# Altium schematic symbol library Schlib1.SchLib: 218 symbols (part 1 of 3)
Pins are listed as number, name and electrical type; pins without a type are passive.

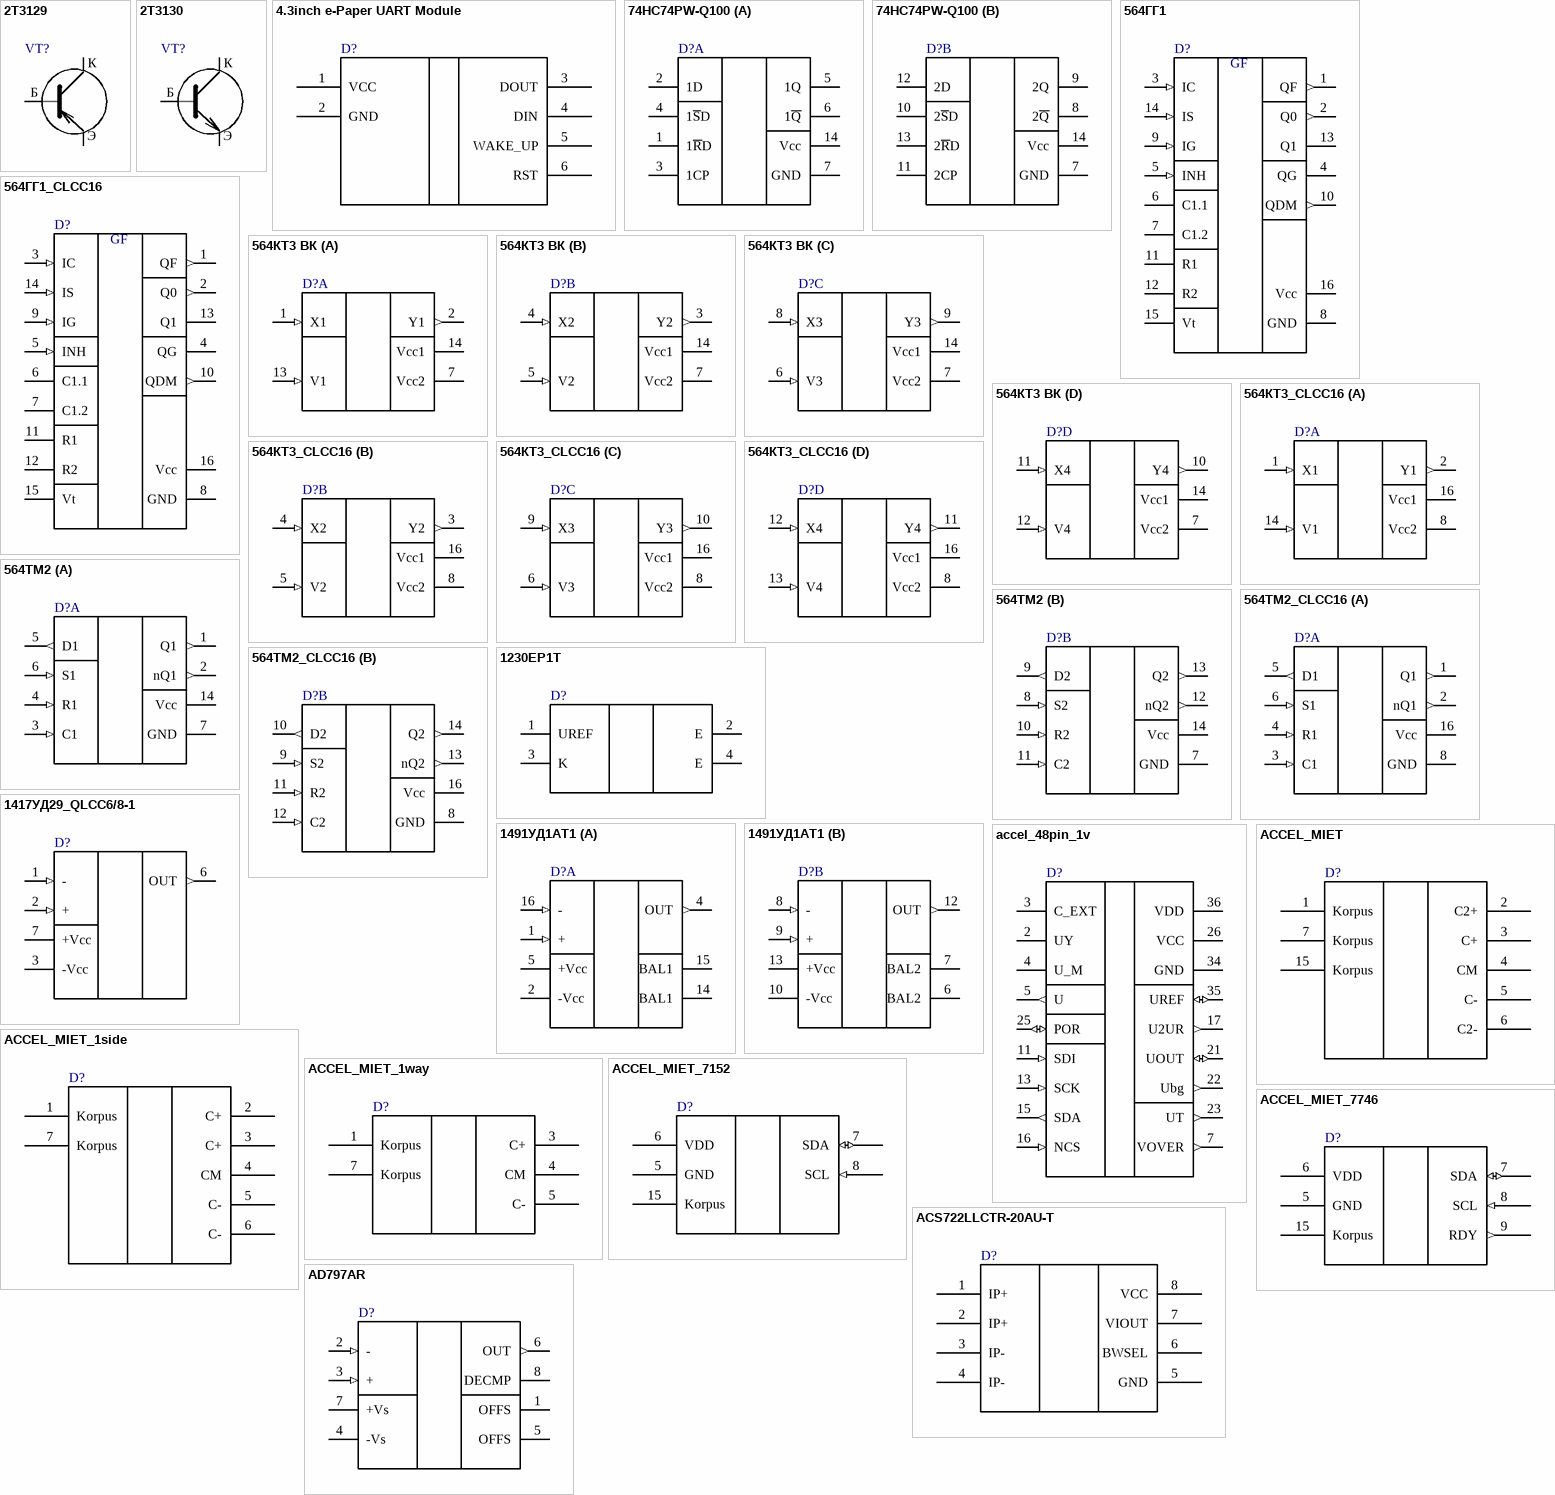
[diagram p0: symbols 2Т3129 to AD797AR]

## 2Т3129
designator VT?  (value not drawn)
Manufacturer: ???; Value: 2Т3129
footprint 2Т3129/2Т3130
pins: 1 Б, 2 Э, 3 К

## 2Т3130
designator VT?  (value not drawn)
Manufacturer: ???; Value: 2Т3130
footprint 2Т3129/2Т3130
pins: 1 Б, 2 Э, 3 К

## 4.3inch e-Paper UART Module
designator D?  (value not drawn)
Manufacturer: WaweShare; Value: 4.3inch e-Paper UART Module
footprint 4.3inch e-Paper UART Module
pins: 1 VCC (power), 2 GND (power), 3 DOUT, 4 DIN, 5 WAKE_UP, 6 RST

## 74HC74PW-Q100
designator D?  (value not drawn)
Manufacturer: Nexperia; Value: 74HC74PW-Q100
footprint NXPERIA_TSSOP-14 (TSOP, 14-Leads, Body 5.00x4.40mm, Pitch 0.65mm, IPC High Density)
part A pins: 1 1~{R}D, 2 1D, 3 1CP, 4 1~{S}D, 5 1Q, 6 1~{Q}, 7 GND (power), 14 Vcc (power)
part B pins: 7 GND (power), 8 2~{Q}, 9 2Q, 10 2~{S}D, 11 2CP, 12 2D, 13 2~{R}D, 14 Vcc (power)

## 564ГГ1
designator D?  (value not drawn)
Manufacturer: Экситон; ValueComment: АЕЯР.431200.610-33 ТУ; Value: 564ГГ1
footprint 402.16-33 (CFP, 16-Leads, Body 11.50x10.45mm (max), Pitch 1.25mm, IPC High Density)
pins: 1 QF (out) "phase impulse output", 2 Q0 (out) "phase comparator output", 3 IC (in) "comparator input", 4 QG "oscillator output", 5 INH (in) "disable oscilator", 6 C1.1, 7 C1.2, 8 GND (power), 9 IG (in) "oscillator input", 10 QDM (out) "demodulator output", 11 R1, 12 R2, 13 Q1 "phase comparator output", 14 IS (in) "signal input", 15 Vt "zener diode", 16 Vcc (power)
text: GF

## 564ГГ1_CLCC16
designator D?  (value not drawn)
Manufacturer: MIET; Value: 564ГГ1_CLCC16
footprint 5119.16-A (Milandr 5119.16-A)
pins: 1 QF (out) "phase impulse output", 2 Q0 (out) "phase comparator output", 3 IC (in) "comparator input", 4 QG "oscillator output", 5 INH (in) "disable oscilator", 6 C1.1, 7 C1.2, 8 GND (power), 9 IG (in) "oscillator input", 10 QDM (out) "demodulator output", 11 R1, 12 R2, 13 Q1 "phase comparator output", 14 IS (in) "signal input", 15 Vt "zener diode", 16 Vcc (power)
text: GF

## 564КТ3 ВК
designator D?  (value not drawn)
Manufacturer: MIET; ValueComment: АЕЯР.431200.150 ТУ; Value: 564КТ3 ВК
footprint 401.14-5 (CFP, 14-Leads, Body 11.50x7.30mm (max), Pitch 1.25mm, IPC High Density)
part A pins: 1 X1 (in), 2 Y1 (out), 7 Vcc2 (power) "0V power", 13 V1 (in), 14 Vcc1 (power) "10V power"
part B pins: 3 Y2 (out), 4 X2 (in), 5 V2 (in), 7 Vcc2 (power) "0V power", 14 Vcc1 (power) "10V power"
part C pins: 6 V3 (in), 7 Vcc2 (power) "0V power", 8 X3 (in), 9 Y3 (out), 14 Vcc1 (power) "10V power"
part D pins: 7 Vcc2 (power) "0V power", 10 Y4 (out), 11 X4 (in), 12 V4 (in), 14 Vcc1 (power) "10V power"

## 564КТ3_CLCC16
designator D?  (value not drawn)
Manufacturer: MIET; Value: 564КТ3_CLCC16
footprint 5119.16-A (Milandr 5119.16-A)
part A pins: 1 X1 (in), 2 Y1 (out), 7 NC hidden, 8 Vcc2 (power) "0V power", 14 V1 (in), 15 NC hidden, 16 Vcc1 (power) "10V power"
part B pins: 3 Y2 (out), 4 X2 (in), 5 V2 (in), 8 Vcc2 (power) "0V power", 16 Vcc1 (power) "10V power"
part C pins: 6 V3 (in), 8 Vcc2 (power) "0V power", 9 X3 (in), 10 Y3 (out), 16 Vcc1 (power) "10V power"
part D pins: 8 Vcc2 (power) "0V power", 11 Y4 (out), 12 X4 (in), 13 V4 (in), 16 Vcc1 (power) "10V power"

## 564ТМ2
designator D?  (value not drawn)
Manufacturer: MIET, Ангстрем; Value: 564ТМ2
footprint 401.14-5 (CFP, 14-Leads, Body 11.50x7.30mm (max), Pitch 1.25mm, IPC High Density)
part A pins: 1 Q1 (out), 2 nQ1 (out), 3 C1 (in), 4 R1 (in), 5 D1 (out), 6 S1 (in), 7 GND (power), 14 Vcc (power)
part B pins: 7 GND (power), 8 S2 (in), 9 D2 (out), 10 R2 (in), 11 C2 (in), 12 nQ2 (out), 13 Q2 (out), 14 Vcc (power)

## 564ТМ2_CLCC16
designator D?  (value not drawn)
Manufacturer: MIET, Ангстрем; Value: 564ТМ2_CLCC16
footprint 5119.16-A (Milandr 5119.16-A)
part A pins: 1 Q1 (out), 2 nQ1 (out), 3 C1 (in), 4 R1 (in), 5 D1 (out), 6 S1 (in), 7 NC hidden, 8 GND (power), 15 NC hidden, 16 Vcc (power)
part B pins: 8 GND (power), 9 S2 (in), 10 D2 (out), 11 R2 (in), 12 C2 (in), 13 nQ2 (out), 14 Q2 (out), 16 Vcc (power)

## 1230ЕР1Т
designator D?  (value not drawn)
Manufacturer: ???; Value: 1230ЕР1Т
footprint 1230ЕР1Т
pins: 1 UREF, 2 E, 3 K, 4 E

## 1417УД29_QLCC6/8-1
designator D?  (value not drawn)
Manufacturer: MIET; Value: 1417УД29_QLCC6/8-1
footprint QLCC 6/8-1 (LCC, 8-Pins, Body 5.08x5.08mmx1.80mm, Pitch 1.27mm, IPC High Density)
pins: 1 - (in), 2 + (in), 3 -Vcc (power), 4 NC hidden, 5 NC hidden, 6 OUT (out), 7 +Vcc (power), 8 hidden

## 1491УД1АТ1
designator D?  (value not drawn)
Low Noise bipolar Operational Amplifier; Manufacturer: КРЛЗ Восход; Value: 1491УД1АТ1
footprint 402.16-33 (CFP, 16-Leads, Body 11.50x10.45mm (max), Pitch 1.25mm, IPC High Density)
part A pins: 1 + (in), 2 -Vcc (power), 3 NC (hiz) hidden, 4 OUT (out), 5 +Vcc (power), 14 BAL1, 15 BAL1, 16 - (in)
part B pins: 6 BAL2, 7 BAL2, 8 - (in), 9 + (in), 10 -Vcc (power), 11 NC (hiz) hidden, 12 OUT (out), 13 +Vcc (power)

## accel_48pin_1v
designator D?, comment accel_test_48pin  (value not drawn)
Manufacturer: MIET; Value: accel_test_48pin
footprint H16.48-1B_test (QFP, 48-Leads, Body 14.20x14.20mm, Pitch 1.00mm, IPC High Density)
pins: 1 NC hidden "accel_out", 2 UY "test pin", 3 C_EXT "noise reduction cap", 4 U_M "test pin", 5 U (out) "accel_out", 6 NC hidden, 7 VOVER (out) "overload detector", 8 NC hidden "noise reduction cap", 9 NC hidden "noise reduction cap", 10 NC hidden "noise reduction cap", 11 SDI (in) "data inp", 12 NC hidden "data inp", 13 SCK (in) "clock inp", 14 NC hidden, 15 SDA (out) "data out", 16 NCS (in) "chip select inp", 17 U2UR (out) "4V out", 18 NC hidden "4V out", 19 NC hidden "4V out", 20 NC hidden "4V out", 21 UOUT (io) "4V out", 22 Ubg (out) "1.25V out", 23 UT (out) "temperature sensor out", 24 NC hidden "temperature sensor out", 25 POR (io) "Power-on-Reset inp/out", 26 VCC (power) "power 5V", 27 NC hidden "chip select inp", 28 NC hidden "chip select inp", 29 NC hidden "chip select inp", 30 NC hidden "chip select inp", 31 NC hidden "chip select inp", 32 NC hidden "chip select inp", 33 NC hidden "chip select inp", 34 GND (power) "ground", 35 UREF (io) "2V ref out", 36 VDD (power) "power 5V", 37 NC hidden "phase impulse output", 38 NC hidden "phase impulse output", 39 NC hidden "phase impulse output", 40 NC hidden "phase impulse output", 41 NC hidden "phase impulse output", 42 NC hidden "phase impulse output", 43 NC hidden "phase impulse output", 44 NC hidden "phase impulse output", 45 NC hidden "phase impulse output", 46 NC hidden "phase impulse output", 47 NC hidden "phase impulse output", 48 NC hidden "phase impulse output"

## ACCEL_MIET
designator D?, comment MIET_Sensor  (value not drawn)
ACCEL MIET; Value: MIET_Sensor; Manufacturer: MIET
footprint 151.15-8
pins: 1 Korpus, 2 C2+, 3 C+, 4 CM, 5 C-, 6 C2-, 7 Korpus, 8 hidden, 9 hidden, 10 hidden, 11 hidden, 12 hidden, 13 hidden, 14 hidden, 15 Korpus

## ACCEL_MIET_1side
designator D?, comment MIET_Sensor  (value not drawn)
ACCEL MIET_1side; Manufacturer: MIET; Value: MIET_Sensor
footprint 151.15-8 - 1side
pins: 1 Korpus, 2 C+, 3 C+, 4 CM, 5 C-, 6 C-, 7 Korpus

## ACCEL_MIET_1way
designator D?, comment MIET_Sensor  (value not drawn)
ACCEL MIET_1way; Manufacturer: MIET; Value: MIET_Sensor
footprint 151.15-8_1way
pins: 1 Korpus, 3 C+, 4 CM, 5 C-, 7 Korpus

## ACCEL_MIET_7152
designator D?, comment ACCEL_7152_MIET  (value not drawn)
ACCEL MIET; Value: ACCEL_7152_MIET; Manufacturer: MIET
footprint 151.15-8
pins: 1 hidden, 2 hidden, 3 hidden, 4 hidden, 5 GND (power), 6 VDD (power), 7 SDA (io), 8 SCL (in), 10 hidden, 11 hidden, 12 hidden, 13 hidden, 14 hidden, 15 Korpus

## ACCEL_MIET_7746
designator D?, comment ACCEL_7746_MIET  (value not drawn)
ACCEL MIET; Value: ACCEL_7746_MIET; Manufacturer: MIET
footprint 151.15-8
pins: 1 hidden, 2 hidden, 3 hidden, 4 hidden, 5 GND (power), 6 VDD (power), 7 SDA (io), 8 SCL (in), 9 RDY (out), 10 hidden, 11 hidden, 12 hidden, 13 hidden, 14 hidden, 15 Korpus

## ACS722LLCTR-20AU-T
designator D?  (value not drawn)
Manufacturer: Allegro Microsystems; Value: ACS722LLCTR-20AU-T
footprint ACS722 (SOIC, 8-Leads, Body 4.90x3.90mm, Pitch 1.27mm, IPC Medium Density)
pins: 1 IP+, 2 IP+, 3 IP-, 4 IP-, 5 GND (power), 6 BWSEL, 7 VIOUT, 8 VCC (power)

## AD797AR
designator D?  (value not drawn)
Manufacturer: AnalogDevices; Value: AD797AR
footprint ADI_SOIC-8_R-8 (SOIC, 8-Leads, Body 4.90x3.90mm, Pitch 1.27mm, IPC High Density)
pins: 1 OFFS, 2 - (in), 3 + (in), 4 -Vs (power), 5 OFFS, 6 OUT (out), 7 +Vs (power), 8 DECMP

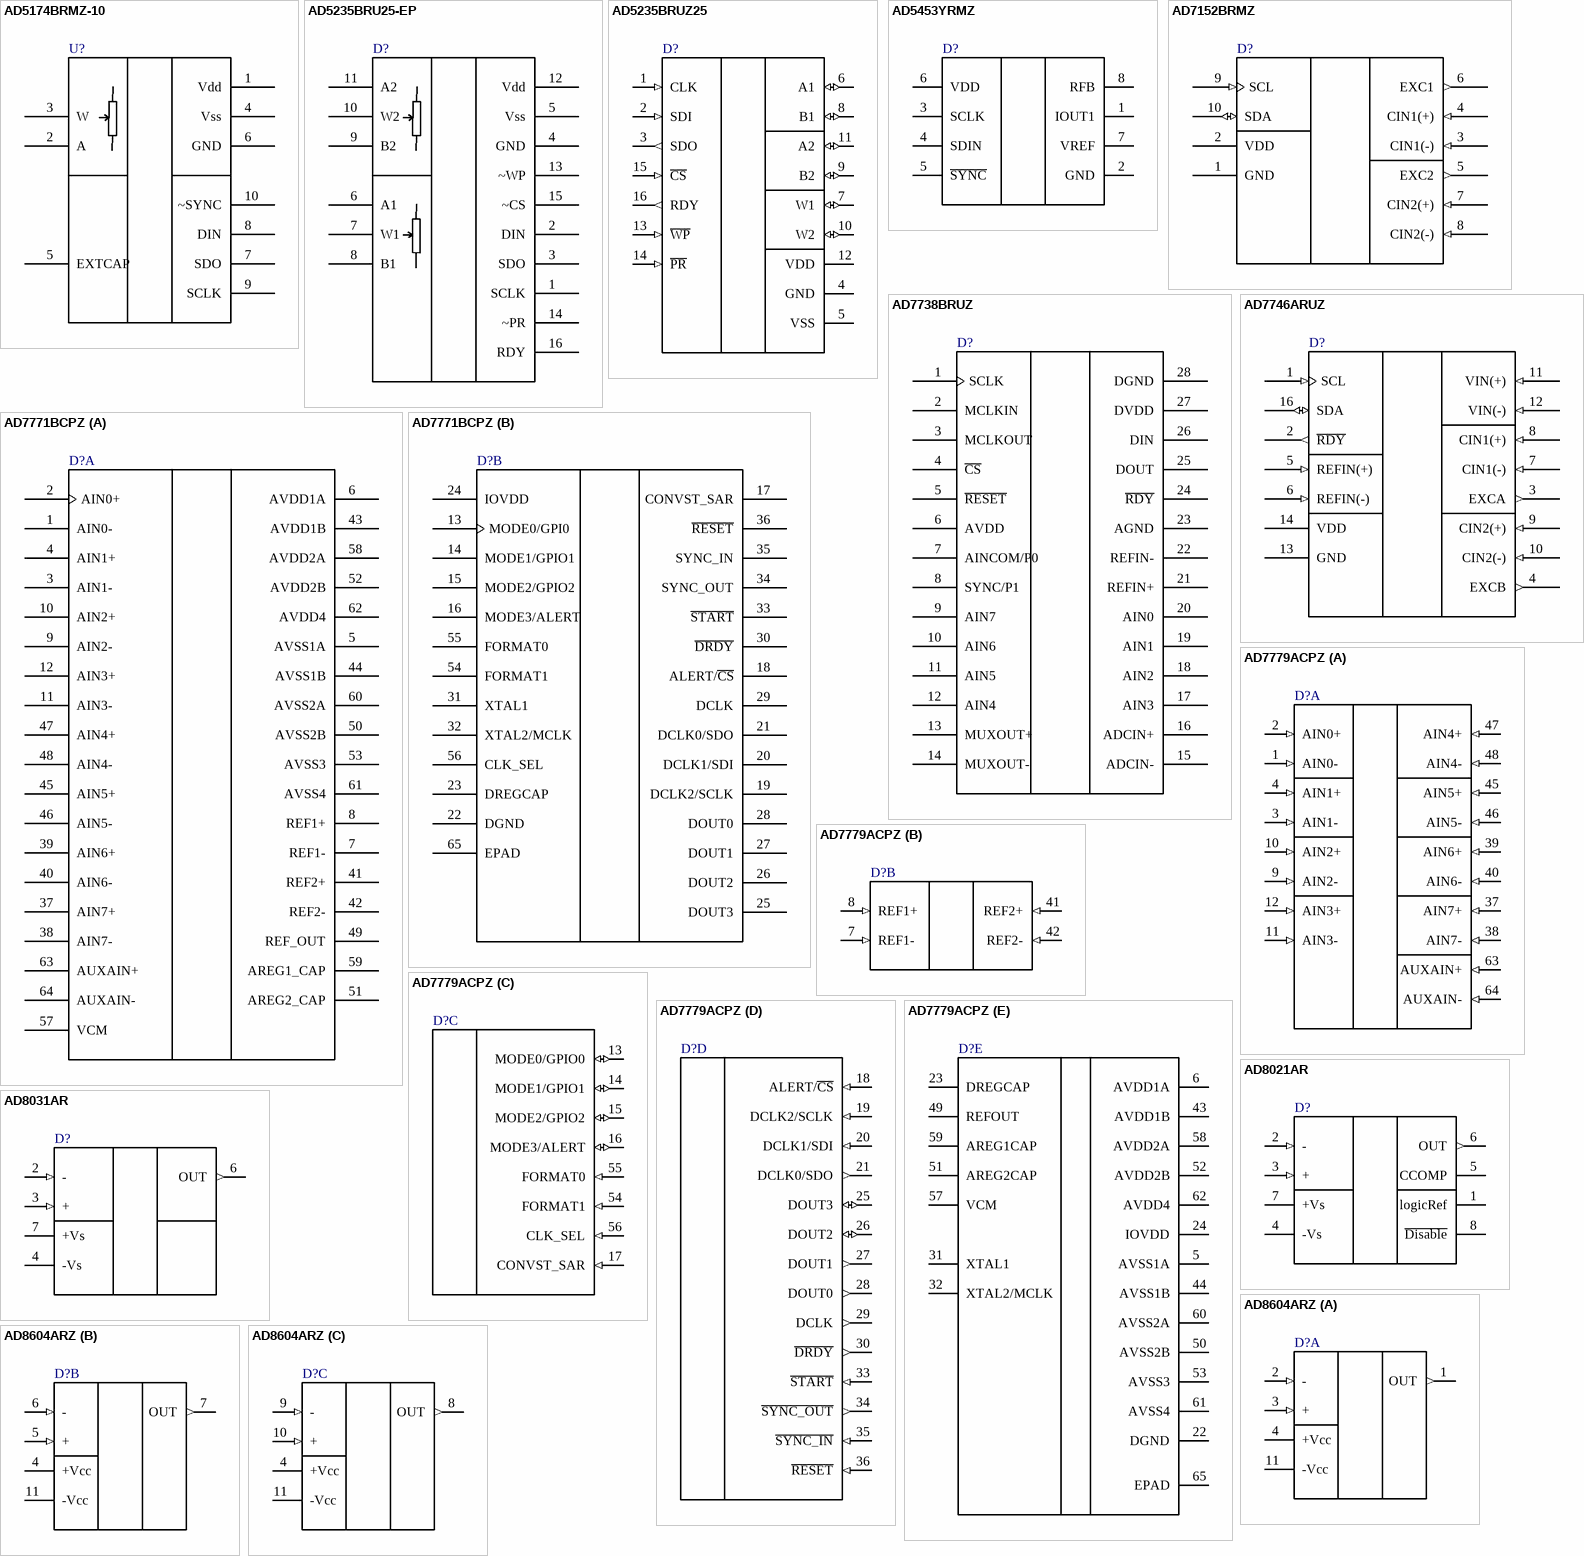
[diagram p1: symbols AD5174BRMZ-10 to AD8604ARZ]

## AD5174BRMZ-10
designator U?  (value not drawn)
Manufacturer: Analog Devices; Value: AD5174BRMZ-10
footprint ADI_RM-10_L (TSSOP, 10-Leads, Body 3x3mm, Pitch 0.5mm, IPC High Density)
pins: 1 Vdd (power), 2 A, 3 W, 4 Vss (power), 5 EXTCAP, 6 GND (power), 7 SDO, 8 DIN, 9 SCLK, 10 ~SYNC

## AD5235BRU25-EP
designator D?  (value not drawn)
10-Bit, Dual, Nonvolatile, Linear-Taper Digital Potentiometers; Manufacturer: Analog Devices; Value: AD5235BRU25-EP
footprint ADI-TSSOP-16 (TSOP, 16-Leads, Body 5.00x4.40mm, Pitch 0.65mm, IPC High Density)
pins: 1 SCLK, 2 DIN, 3 SDO, 4 GND (power), 5 Vss (power), 6 A1, 7 W1, 8 B1, 9 B2, 10 W2, 11 A2, 12 Vdd (power), 13 ~WP (power), 14 ~PR, 15 ~CS, 16 RDY

## AD5235BRUZ25
designator D?  (value not drawn)
Dual 1024-Position Digital Potentiometer; Manufacturer: Analog Devices; Value: AD5235BRUZ25
footprint AD5235BRUZ25 (TSOP, 16-Leads, Body 5.00x4.40mm, Pitch 0.65mm, IPC High Density)
pins: 1 CLK (in) "SPI clock", 2 SDI (in) "SPI MOSI", 3 SDO (out) "SPI MISO", 4 GND (power), 5 VSS (power), 6 A1 (io) "RDAC1_A", 7 W1 (io) "RDAC1_Wiper", 8 B1 (io) "RDAC1_B", 9 B2 (io) "RDAC2_B", 10 W2 (io) "RDAC2_Wiper", 11 A2 (io) "RDAC2_A", 12 VDD (power), 13 ~{WP} (in) "WriteProtect", 14 ~{PR} (in) "Preset", 15 ~{CS} (in) "SPI CS", 16 RDY (out) "READY"

## AD5453YRMZ
designator D?  (value not drawn)
Manufacturer: Analog Devices; Value: AD5453YRMZ
footprint ADI-RM-8 (SOP, 8-Leads, Body 3x3mm, Pitch 0.65mm, IPC High Density)
pins: 1 IOUT1, 2 GND (power), 3 SCLK, 4 SDIN, 5 ~{SYNC}, 6 VDD (power), 7 VREF, 8 RFB

## AD7152BRMZ
designator D?  (value not drawn)
Dual 12-Bit Capacitance-to-Digital Converter with I2C/Ser 2-Wire, Serial Interface, 200SPS, -40 to +85 degC, RM-10, Pb-Free, Tube; Generic Part Number: AD7152; Manufacturer: Analog Devices; Resolution (Bits): 12; Channels: 2; Throughput Rate (SPS): 200; DatasheetVersion: Rev.0; PackageVersion: May-2005; PackageReference: RM-10; PackageDescription: 10-Lead Mini Small Outline Package [MSOP]; Supplier 1: Digi-Key; Supplier Part Number 1: AD7152BRMZ-ND; Supplier 2: Mouser; Supplier Part Number 2: 584-AD7152BRMZ; Interface: I2C/Ser 2-Wire, Ser; RoHS: Y; Packing: Tube; Mounting Technology: Surface Mount; PartNumber: AD7152BRMZ; ComponentLink1Description: Manufacturer URL; ComponentLink1URL: http://www.analog.com/en/index.html; ComponentLink2Description: Datasheet; ComponentLink2URL: http://www.analog.com/static/imported-files/data_sheets/AD7152_7153.pdf; ComponentLink3Description: Package Specification; ComponentLink3URL: http://www.analog.com/static/imported-files/packages/PKG_PDF/MSOP%28RM%29/RM_10.pdf; ComponentLink4Description: Product URL; ComponentLink4URL: http://www.analog.com/en/analog-to-digital-converters/ad-converters/ad7152/products/product.html; Value: AD7152BRMZ
footprint ADI_RM-10_L (TSSOP, 10-Leads, Body 3x3mm, Pitch 0.5mm, IPC High Density)
pins: 1 GND (power) "Ground Pin.", 2 VDD (power) "Power Supply Voltage. This pin should be decoupled to GND, using a low impedance capacitor, for example, in combination with a 10 uF tantalum and a 0.1 uF multilayer ceramic capacitor.", 3 CIN1(-) (in) "CDC Negative Capacitive Input of Channel 1. If not used, this pin can be left as an open circuit or connected to GND. This pin is internally disconnected in single-ended CDC configuration.", 4 CIN1(+) (in) "CDC Positive Capacitive Input of Channel 1. If not used, this pin can be left as an open circuit or connected to GND.", 5 EXC2 (out) "CDC Excitation Output for Channel 2. The measured capacitance is connected between one of the EXC pins and one of the CIN pins. If not used, these pins should be left as an open circuit.", 6 EXC1 (out) "CDC Excitation Output for Channel 1. The measured capacitance is connected between one of the EXC pins and one of the CIN pins. If not used, these pins should be left as an open circuit.", 7 CIN2(+) (in) "CDC Positive Capacitive Input of Channel 2. If not used, this pin can be left as an open circuit or connected to GND.", 8 CIN2(-) (in) "CDC Negative Capacitive Input of Channel 2. If not used, this pin can be left as an open circuit or connected to GND. This pin is internally disconnected in single-ended CDC configuration.", 9 SCL (in) "Serial Interface Clock Input. Connects to the master clock line. Requires a pull-up resistor if one is not already provided in the system.", 10 SDA (io) "Serial Interface Bidirectional Data. Connects to the master data line. Requires a pull-up resistor if one is not provided elsewhere in the system."

## AD7738BRUZ
designator D?  (value not drawn)
Manufacturer: Analog Devices; Value: AD7738BRUZ
footprint AD7738BRUZ (TSOP, 28-Leads, Body 9.70x4.40mm, Pitch 0.65mm, IPC High Density)
pins: 1 SCLK, 2 MCLKIN, 3 MCLKOUT, 4 ~{CS}, 5 ~{RESET}, 6 AVDD (power), 7 AINCOM/P0, 8 SYNC/P1, 9 AIN7, 10 AIN6, 11 AIN5, 12 AIN4, 13 MUXOUT+, 14 MUXOUT-, 15 ADCIN-, 16 ADCIN+, 17 AIN3, 18 AIN2, 19 AIN1, 20 AIN0, 21 REFIN+, 22 REFIN-, 23 AGND (power), 24 ~{RDY}, 25 DOUT, 26 DIN, 27 DVDD, 28 DGND

## AD7746ARUZ
designator D?  (value not drawn)
Dual 24-Bit Capacitance-to-Digital Converter with I2C/Ser 2-Wire, Serial, Interface and Temperature Sensor, 90SPS, -40 to +125 degC, RU-16, Pb-Free, Tube; Generic Part Number: AD7746; Manufacturer: Analog Devices; Resolution (Bits): 24; Channels: 2; Throughput Rate (SPS): 90; DatasheetVersion: Rev.0; PackageVersion: Nov-2002; PackageReference: RU-16; PackageDescription: 16-Lead Thin Shrink Small Outline Package [TSSOP]; Supplier 1: Digi-Key; Supplier Part Number 1: AD7746ARUZ-ND; Supplier 2: Farnell; Supplier Part Number 2: 1078332; Supplier 3: Newark; Supplier Part Number 3: 19M0895; Supplier 4: Mouser; Supplier Part Number 4: 584-AD7746ARUZ; Interface: I2C/Ser 2-Wire, Ser; RoHS: Y; Packing: Tube; Mounting Technology: Surface Mount; Code_JEDEC: MO-153-AB; PartNumber: AD7746ARUZ; ComponentLink1Description: Manufacturer URL; ComponentLink1URL: http://www.analog.com/en/index.html; ComponentLink2Description: Datasheet; ComponentLink2URL: http://www.analog.com/static/imported-files/data_sheets/AD7745_7746.pdf; ComponentLink3Description: Package Specification; ComponentLink3URL: http://www.analog.com/static/imported-files/packages/36244347913743854010197452789RU16.pdf; ComponentLink4Description: Product URL; ComponentLink4URL: http://www.analog.com/en/analog-to-digital-converters/ad-converters/ad7746/products/product.html; Value: AD7746ARUZ
footprint ADI_RU-16_L_AD7746 (TSOP, 16-Leads, Body 5x4.4mm, Pitch 0.65mm, IPC High Density)
pins: 1 SCL (in) "Serial Interface Clock Input. Connects to the master clock line. Requires pull-up resistor if not already provided in the system.", 2 ~{RDY} (out) "Logic Output. A falling edge on this output indicates that a conversion on enabled channel(s) has been finished and the new data is available. Alternatively, the status register can be read via the 2-wire serial interface (See Datasheet)", 3 EXCA (out) "CDC Excitation Outputs. The measured capacitance is connected between one of the EXC pins and one of the CIN pins. If not used, these pins should be left as an open circuit.", 4 EXCB (out) "CDC Excitation Outputs. The measured capacitance is connected between one of the EXC pins and one of the CIN pins. If not used, these pins should be left as an open circuit.", 5 REFIN(+) (in) "Differential Voltage Reference Input for the Voltage Channel (ADC). Alternatively, the on-chip internal reference can be used for the voltage channel. These reference input pins are not used for conversion on capacitive (See Datasheet)", 6 REFIN(-) (in) "Differential Voltage Reference Input for the Voltage Channel (ADC). Alternatively, the on-chip internal reference can be used for the voltage channel. These reference input pins are not used for conversion on capacitive (See Datasheet)", 7 CIN1(-) (in) "CDC Negative Capacitive Input in Differential Mode. This pin is internally disconnected in single-ended CDC configuration. If not used, this pin can be left as an open circuit or connected to GND.", 8 CIN1(+) (in) "CDC Capacitive Input (in Single-Ended Mode) or Positive Capacitive Input (in Differential Mode). The measured capacitance is connected between one of the EXC pins and one of the CIN pins. If not used, this pin can be left as (See Datasheet)", 9 CIN2(+) (in) "CDC Second Capacitive Input (in Single-Ended Mode) or Positive Capacitive Input (in Differential Mode). If not used, this pin can be left open circuit or connected to GND.", 10 CIN2(-) (in) "CDC Negative Capacitive Input in Differential Mode. This pin is internally disconnected in a single-ended CDC configuration. If not used, this pin can be left as an open circuit or connected to GND.", 11 VIN(+) (in) "Differential Voltage Input for the Voltage Channel (ADC). These pins are also used to connect an external temperature sensing diode. If not used, these pins can be left as an open circuit or connected to GND.", 12 VIN(-) (in) "Differential Voltage Input for the Voltage Channel (ADC). These pins are also used to connect an external temperature sensing diode. If not used, these pins can be left as an open circuit or connected to GND.", 13 GND (power) "Ground Pin.", 14 VDD (power) "Power Supply Voltage. This pin should be decoupled to GND, using a low impedance capacitor, for example in combination with a 10 uF tantalum and a 0.1 uF multilayer ceramic.", 15 NC hidden "Not Connected. This pin should be left as an open circuit.", 16 SDA (io) "Serial Interface Bidirectional Data. Connects to the master data line. Requires a pull-up resistor if not provided elsewhere in the system."

## AD7771BCPZ
designator D?  (value not drawn)
Manufacturer: Analog Devices; Value: AD7771BCPZ
footprint ADI_LFCSP-64 (QFN, 64-Leads, Body 9.00x9.00mm, Pitch 0.50mm, Thermal Pad 7.60x7.60mm, IPC High Density)
part A pins: 1 AIN0-, 2 AIN0+, 3 AIN1-, 4 AIN1+, 5 AVSS1A (power), 6 AVDD1A (power), 7 REF1-, 8 REF1+, 9 AIN2-, 10 AIN2+, 11 AIN3-, 12 AIN3+, 37 AIN7+, 38 AIN7-, 39 AIN6+, 40 AIN6-, 41 REF2+, 42 REF2-, 43 AVDD1B (power), 44 AVSS1B (power), 45 AIN5+, 46 AIN5-, 47 AIN4+, 48 AIN4-, 49 REF_OUT, 50 AVSS2B (power), 51 AREG2_CAP, 52 AVDD2B, 53 AVSS3 (power), 57 VCM, 58 AVDD2A (power), 59 AREG1_CAP, 60 AVSS2A (power), 61 AVSS4 (power), 62 AVDD4 (power), 63 AUXAIN+, 64 AUXAIN-
part B pins: 13 MODE0/GPI0, 14 MODE1/GPIO1, 15 MODE2/GPIO2, 16 MODE3/ALERT, 17 CONVST_SAR, 18 ALERT/~{CS}, 19 DCLK2/SCLK, 20 DCLK1/SDI, 21 DCLK0/SDO, 22 DGND (power), 23 DREGCAP, 24 IOVDD (power), 25 DOUT3, 26 DOUT2, 27 DOUT1, 28 DOUT0, 29 DCLK, 30 ~{DRDY}, 31 XTAL1, 32 XTAL2/MCLK, 33 ~{START}, 34 SYNC_OUT, 35 SYNC_IN, 36 ~{RESET}, 54 FORMAT1, 55 FORMAT0, 56 CLK_SEL, 65 EPAD (power)

## AD7779ACPZ
designator D?  (value not drawn)
24-bit simultaneous sampling ADC; Manufacturer: ADI; Value: AD7779ACPZ
footprint AD7779ACPZ (QFN, 64-Leads, Body 9.00x9.00mm, Pitch 0.50mm, Thermal Pad 7.40x7.40mm, IPC High Density)
part A pins: 1 AIN0- (in), 2 AIN0+ (in), 3 AIN1- (in), 4 AIN1+ (in), 9 AIN2- (in), 10 AIN2+ (in), 11 AIN3- (in), 12 AIN3+ (in), 37 AIN7+ (in), 38 AIN7- (in), 39 AIN6+ (in), 40 AIN6- (in), 45 AIN5+ (in), 46 AIN5- (in), 47 AIN4+ (in), 48 AIN4- (in), 63 AUXAIN+ (in), 64 AUXAIN- (in)
part B pins: 7 REF1- (in), 8 REF1+ (in), 41 REF2+ (in), 42 REF2- (in)
part C pins: 13 MODE0/GPIO0 (io), 14 MODE1/GPIO1 (io), 15 MODE2/GPIO2 (io), 16 MODE3/ALERT (io), 17 CONVST_SAR (in), 54 FORMAT1 (in), 55 FORMAT0 (in), 56 CLK_SEL (in)
part D pins: 18 ALERT/~{CS} (in), 19 DCLK2/SCLK (in), 20 DCLK1/SDI (in), 21 DCLK0/SDO (out), 25 DOUT3 (io), 26 DOUT2 (io), 27 DOUT1 (out), 28 DOUT0 (out), 29 DCLK (out), 30 ~{DRDY} (out), 33 ~{START} (in), 34 ~{SYNC_OUT} (out), 35 ~{SYNC_IN} (in), 36 ~{RESET} (in)
part E pins: 5 AVSS1A (power), 6 AVDD1A (power), 22 DGND (power), 23 DREGCAP, 24 IOVDD (power), 31 XTAL1, 32 XTAL2/MCLK, 43 AVDD1B (power), 44 AVSS1B (power), 49 REFOUT, 50 AVSS2B (power), 51 AREG2CAP, 52 AVDD2B (power), 53 AVSS3 (power), 57 VCM, 58 AVDD2A (power), 59 AREG1CAP, 60 AVSS2A (power), 61 AVSS4 (power), 62 AVDD4 (power), 65 EPAD (power)

## AD8021AR
designator D?  (value not drawn)
OpAmp HighSpeed; Manufacturer: Analog Devices; Value: AD8021AR
footprint ADI_SOIC-8_R-8 (SOIC, 8-Leads, Body 4.90x3.90mm, Pitch 1.27mm, IPC High Density)
pins: 1 logicRef, 2 - (in), 3 + (in), 4 -Vs (power), 5 CCOMP, 6 OUT (out), 7 +Vs (power), 8 ~{Disable}

## AD8031AR
designator D?  (value not drawn)
OpAmp high speed; Manufacturer: Analog Devices; Value: AD8031AR
footprint ADI_SOIC-8_R-8 (SOIC, 8-Leads, Body 4.90x3.90mm, Pitch 1.27mm, IPC High Density)
pins: 1 NC (hiz) hidden, 2 - (in), 3 + (in), 4 -Vs (power), 5 NC (hiz) hidden, 6 OUT (out), 7 +Vs (power), 8 NC (hiz) hidden

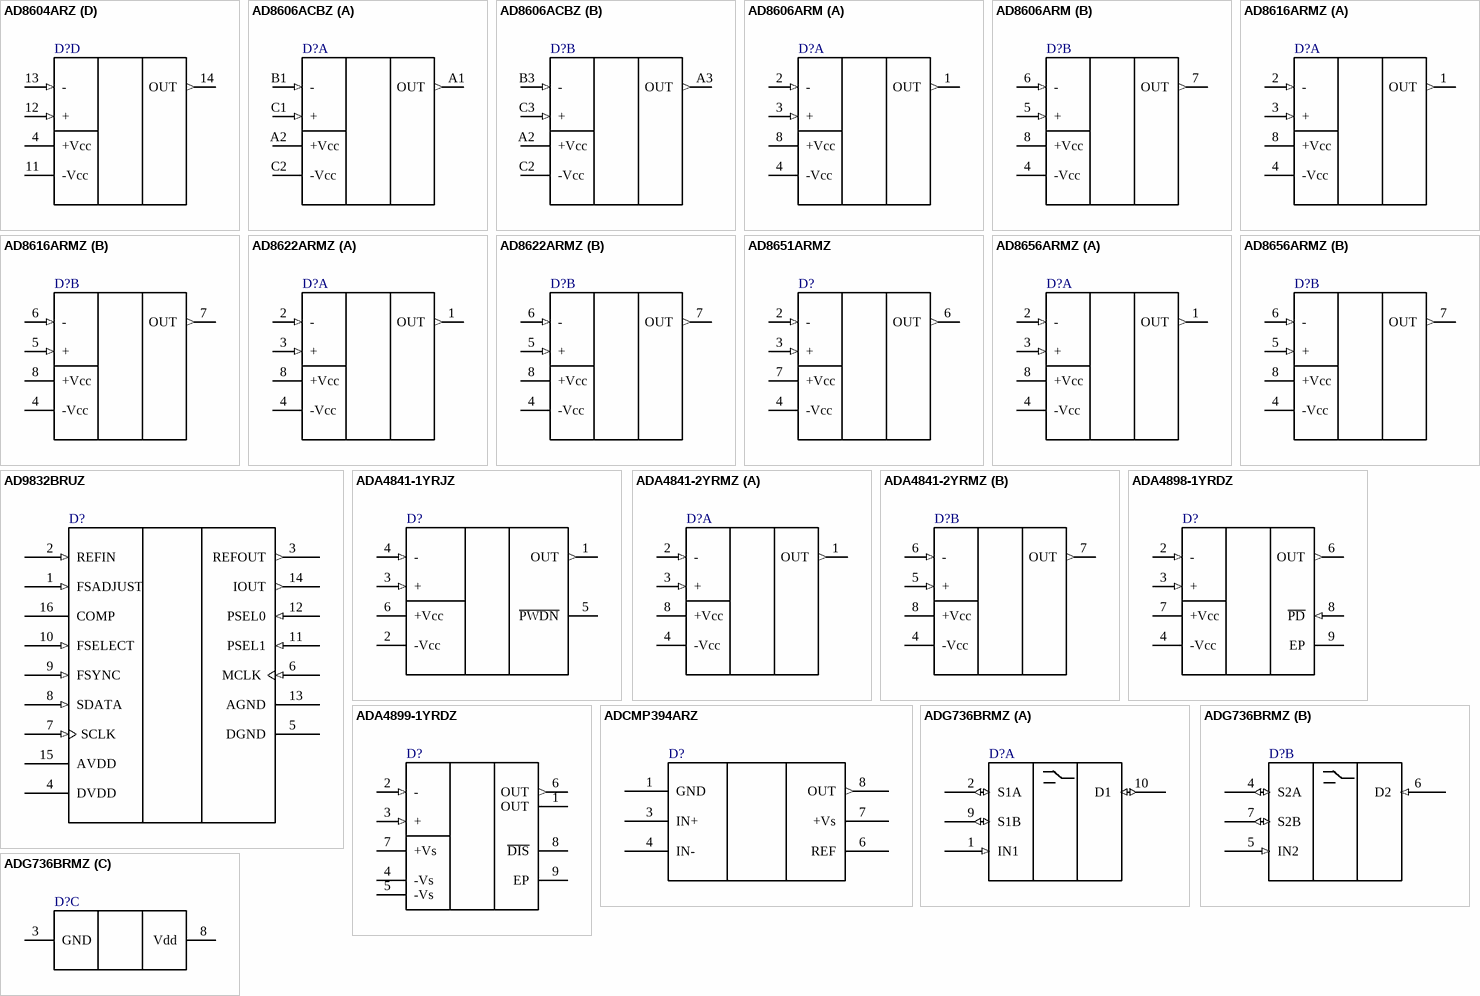
[diagram p2: symbols AD8604ARZ to ADG736BRMZ]

## AD8604ARZ
designator D?  (value not drawn)
Manufacturer: Analog Devices; Value: AD8604ARZ
footprint ADI_R-14 (SOIC, 14-Leads, Body 8.65x3.90mm, Pitch 1.27mm, IPC Medium Density)
part A pins: 1 OUT (out), 2 - (in), 3 + (in), 4 +Vcc (power), 11 -Vcc (power)
part B pins: 4 +Vcc (power), 5 + (in), 6 - (in), 7 OUT (out), 11 -Vcc (power)
part C pins: 4 +Vcc (power), 8 OUT (out), 9 - (in), 10 + (in), 11 -Vcc (power)
part D pins: 4 +Vcc (power), 11 -Vcc (power), 12 + (in), 13 - (in), 14 OUT (out)

## AD8606ACBZ
designator D?  (value not drawn)
Dual 10MHz unipolar OpAmp; Manufacturer: Analog Devices; Value: AD8606ACBZ
footprint AD8606ACBZ (BGA, 8-Leads, Body 1.43x1.78mmx0.68mm, Pitch 0.50mm)
part A pins: A1 OUT (out), A2 +Vcc (power), B1 - (in), C1 + (in), C2 -Vcc (power)
part B pins: A2 +Vcc (power), A3 OUT (out), B3 - (in), C2 -Vcc (power), C3 + (in)

## AD8606ARM
designator D?  (value not drawn)
Precision, Low Noise, CMOS, Rail-to-Rail, Input/Output Operational Amplifier; Manufacturer: Analog Devices; Value: AD8606ARM
footprint ADI-RM-8 (SOP, 8-Leads, Body 3x3mm, Pitch 0.65mm, IPC High Density)
part A pins: 1 OUT (out), 2 - (in), 3 + (in), 4 -Vcc (power), 8 +Vcc (power)
part B pins: 4 -Vcc (power), 5 + (in), 6 - (in), 7 OUT (out), 8 +Vcc (power)

## AD8616ARMZ
designator D?  (value not drawn)
Precision, 20 MHz, CMOS, Rail-to-Rail Input/Output Operational Amplifier; Manufacturer: Analog Devices; Value: AD8616ARMZ
footprint ADI-RM-8 (SOP, 8-Leads, Body 3x3mm, Pitch 0.65mm, IPC High Density)
part A pins: 1 OUT (out), 2 - (in), 3 + (in), 4 -Vcc (power), 8 +Vcc (power)
part B pins: 4 -Vcc (power), 5 + (in), 6 - (in), 7 OUT (out), 8 +Vcc (power)

## AD8622ARMZ
designator D?  (value not drawn)
Precision, Low Noise, CMOS, Rail-to-Rail, Input/Output Operational Amplifier; Manufacturer: Analog Devices; Value: AD8622ARMZ
footprint ADI-RM-8 (SOP, 8-Leads, Body 3x3mm, Pitch 0.65mm, IPC High Density)
part A pins: 1 OUT (out), 2 - (in), 3 + (in), 4 -Vcc (power), 8 +Vcc (power)
part B pins: 4 -Vcc (power), 5 + (in), 6 - (in), 7 OUT (out), 8 +Vcc (power)

## AD8651ARMZ
designator D?  (value not drawn)
Manufacturer: Analog Devices; Value: AD8651ARMZ
footprint ADI-RM-8 (SOP, 8-Leads, Body 3x3mm, Pitch 0.65mm, IPC High Density)
pins: 1 NC hidden, 2 - (in), 3 + (in), 4 -Vcc (power), 5 NC hidden, 6 OUT (out), 7 +Vcc (power), 8 NC hidden

## AD8656ARMZ
designator D?  (value not drawn)
Manufacturer: Analog Devices; Value: AD8656ARMZ
part A pins: 1 OUT (out), 2 - (in), 3 + (in), 4 -Vcc (power), 8 +Vcc (power)
part B pins: 4 -Vcc (power), 5 + (in), 6 - (in), 7 OUT (out), 8 +Vcc (power)

## AD9832BRUZ
designator D?  (value not drawn)
25 MHz Direct Digital Synthesizer, Waveform Generator, 10-Bit, Serial, RU-16, 96 Tube, Pb-Free; Manufacturer: Analog Devices; Master fclk: 25MHz; Resolution (Bits): 10bit; Tuning Word Width (bits): 32bit; REFCLK Multiplier: No; Compliance Range (V): 1.35V; FS Iout (mA nom): 4mA; I Supply total (max): 15mA; DatasheetVersion: Rev. C; PackageVersion: Nov-2002; PackageReference: RU-16; PackageDescription: 16-Lead Thin Shrink Small Outline Package [TSSOP]; I/O Interface: Serial; Code_JEDEC: MO-153AB; ComponentLink1Description: Manufacturer URL; ComponentLink1URL: www.analog.com; ComponentLink2Description: Datasheet; ComponentLink2URL: http://www.analog.com/static/imported-files/data_sheets/AD9832.pdf; ComponentLink3Description: Package Specification; ComponentLink3URL: http://www.analog.com/static/imported-files/packages/36244347913743854010197452789RU16.pdf; Value: AD9832BRUZ
footprint ADI-RU-16_L (TSOP, 16-Leads, Body 5x4.4mm, Pitch 0.65mm, IPC High Density)
pins: 1 FSADJUST (in) "Full-Scale Adjust Control. A resistor (RSET) is connected between this pin and AGND. This determines the  magnitude of the full-scale DAC current. [see datasheet]", 2 REFIN (in) "Voltage Reference Input. The AD9832 can be used with either the on-board reference, which is available from   the REFOUT pin, or an external reference. [see datasheet]", 3 REFOUT (out) "Voltage Reference Output. The AD9832 has an on-board reference of value 1.21 V nominal. The reference is  available on the REFOUT pin. [see datasheet]", 4 DVDD (power) "Positive Power Supply for the Digital Section. A 0.1 uF decoupling capacitor should be connected between   DVDD and DGND. DVDD can have a value of 5 V +/- 10% or 3.3 V +/- 0%", 5 DGND (power) "Digital Ground", 6 MCLK (in) "Digital Clock Input. DDS output frequencies are expressed as a binary fraction of the frequency of MCLK. This  clock determines the output frequency accuracy and phase noise", 7 SCLK (in) "Serial Clock, Logic Input. Data is clocked into the AD9832 on each falling SCLK edge.", 8 SDATA (in) "Serial Data In, Logic Input. The 16-bit serial data-word is applied to this input.", 9 FSYNC (in) "Data Synchronization Signal, Logic Input. When this input goes low, the internal logic is informed that  a new word is being loaded into the devic", 10 FSELECT (in) "Frequency Select Input. FSELECT controls which frequency register, FREQ0 or FREQ1, is used in the phase  accumulator. The frequency register to be used can be selected using the FSELECT pin or the FSELECT bit. [see datasheet]", 11 PSEL1 (in) "Phase Select Input. The AD9832 has four phase registers. These registers can be used to alter the value being  input to the SIN ROM. [see datasheet]", 12 PSEL0 (in) "Phase Select Input. The AD9832 has four phase registers. These registers can be used to alter the value being  input to the SIN ROM. [see datasheet]", 13 AGND (power) "Analog Ground", 14 IOUT (out) "Current Output. This is a high impedance current source. A load resistor should be connected between IOUT and AGN", 15 AVDD (power) "Positive Power Supply for the Analog Section. A 0.1 uF decoupling capacitor should be connected between  AVDD and AGND. AVDD can have a value of 5 V +/- 10% or 3.3 V +/- 10", 16 COMP "Compensation Pin. This is a compensation pin for the internal reference amplifier. A 10 nF decoupling ceramic capacitor should be connected between COMP and AVDD."

## ADA4841-1YRJZ
designator D?  (value not drawn)
Manufacturer: Analog Devices; Value: ADA4841-1YRJZ
footprint ADI_SOT23_6pin (SOT23, 6-Leads, Body 2.90x2.80mm, Pitch 0.95mm, IPC High Density)
pins: 1 OUT (out), 2 -Vcc (power), 3 + (in), 4 - (in), 5 ~{PWDN}, 6 +Vcc (power)

## ADA4841-2YRMZ
designator D?  (value not drawn)
Low Power, Low Noise and Distortion, Rail-to-Rail Output Amplifier; Manufacturer: Analog Devices; Value: ADA4841-2YRMZ
footprint ADI-RM-8 (SOP, 8-Leads, Body 3x3mm, Pitch 0.65mm, IPC High Density)
part A pins: 1 OUT (out), 2 - (in), 3 + (in), 4 -Vcc (power), 8 +Vcc (power)
part B pins: 4 -Vcc (power), 5 + (in), 6 - (in), 7 OUT (out), 8 +Vcc (power)

## ADA4898-1YRDZ
designator D?  (value not drawn)
High Voltage, Low Noise, Low Distortion, Unity-Gain Stable, High Speed Op Amp; Manufacturer: Analog Devices; Value: ADA4898-1YRDZ
footprint ADI_SOIC-8_RD-8-1 (SOIC, 8-Leads, Body 4.90x3.90mm, Pitch 1.27mm, IPC High Density)
pins: 1 NC (hiz) hidden, 2 - (in), 3 + (in), 4 -Vcc (power), 5 NC (hiz) hidden, 6 OUT (out), 7 +Vcc (power), 8 ~{PD} (in), 9 EP

## ADA4899-1YRDZ
designator D?  (value not drawn)
Manufacturer: Analog Devices; Value: ADA4899-1YRDZ
footprint ADI_SOIC-8_RD-8-1 (SOIC, 8-Leads, Body 4.90x3.90mm, Pitch 1.27mm, IPC High Density)
pins: 1 OUT, 2 - (in), 3 + (in), 4 -Vs (power), 5 -Vs (power), 6 OUT (out), 7 +Vs (power), 8 ~{DIS}, 9 EP

## ADCMP394ARZ
designator D?  (value not drawn)
Manufacturer: Analog Devices; Value: ADCMP394ARZ
footprint ADI_SOIC-8_R-8 (SOIC, 8-Leads, Body 4.90x3.90mm, Pitch 1.27mm, IPC High Density)
pins: 1 GND (power), 2 NC hidden, 3 IN+, 4 IN-, 5 NC hidden, 6 REF, 7 +Vs (power), 8 OUT (out)

## ADG736BRMZ
designator D?  (value not drawn)
Manufacturer: Analog Devices; Value: ADG736BRMZ
footprint MSOP10_ADI_RM-10 (TSSOP, 10-Leads, Body 3.00x3.00mm, Pitch 0.50mm, IPC High Density)
part A pins: 1 IN1 (in), 2 S1A (io), 9 S1B (io), 10 D1 (io)
part B pins: 4 S2A (io), 5 IN2 (in), 6 D2 (in), 7 S2B (io)
part C pins: 3 GND (power), 8 Vdd (power)

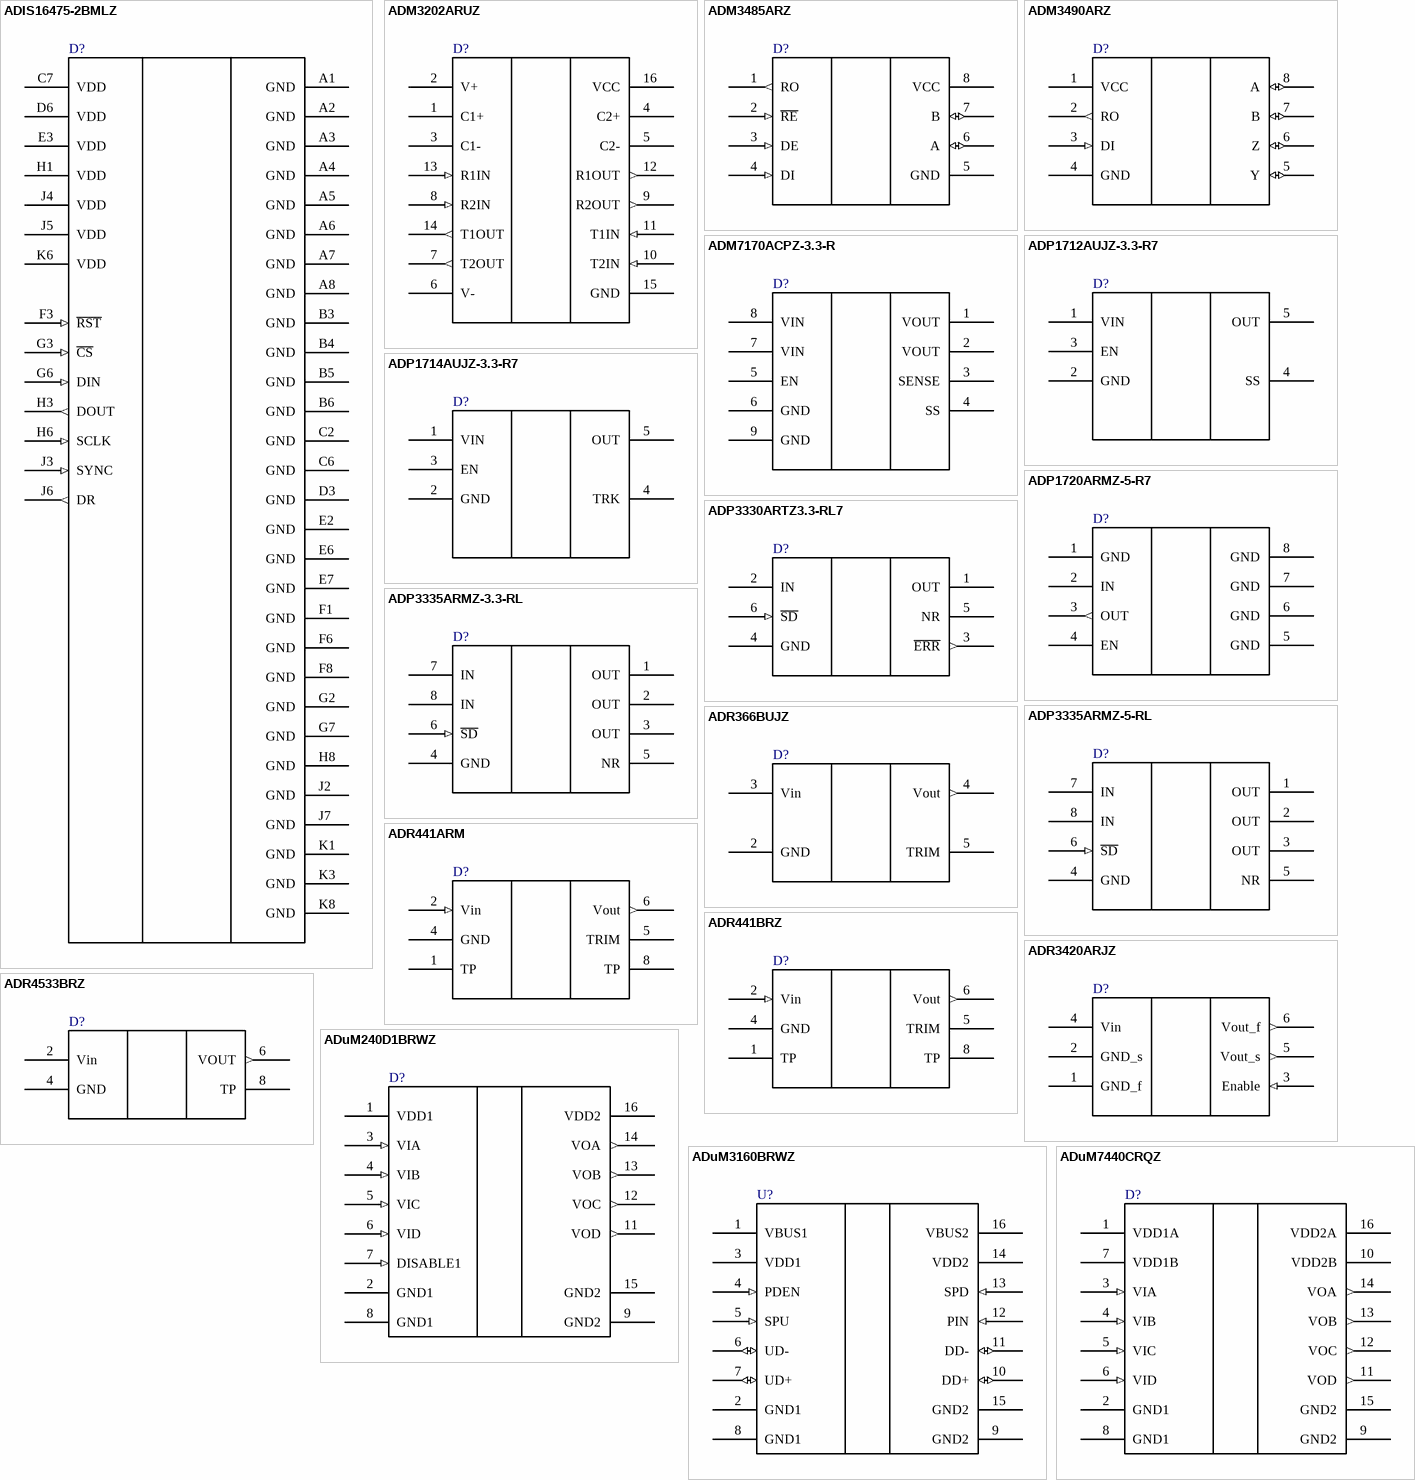
[diagram p3: symbols ADIS16475-2BMLZ to ADuM7440CRQZ]

## ADIS16475-2BMLZ
designator D?  (value not drawn)
Manufacturer: Analog Devices; Value: ADIS16475-2BMLZ
footprint ADI_ML-44-1 (BGA, 44-Leads, Body 11.00x15.00mmx11.35mm, Pitch 1.27mm)
pins: A1 GND (power), A2 GND (power), A3 GND (power), A4 GND (power), A5 GND (power), A6 GND (power), A7 GND (power), A8 GND (power), B3 GND (power), B4 GND (power), B5 GND (power), B6 GND (power), C2 GND (power), C3 DNC hidden, C6 GND (power), C7 VDD (power), D3 GND (power), D6 VDD (power), E2 GND (power), E3 VDD (power), E6 GND (power), E7 GND (power), F1 GND (power), F3 ~{RST} (in), F6 GND (power), F8 GND (power), G2 GND (power), G3 ~{CS} (in), G6 DIN (in), G7 GND (power), H1 VDD (power), H3 DOUT (out), H6 SCLK (in), H8 GND (power), J2 GND (power), J3 SYNC (in), J4 VDD (power), J5 VDD (power), J6 DR (out), J7 GND (power), K1 GND (power), K3 GND (power), K6 VDD (power), K8 GND (power)

## ADM3202ARUZ
designator D?  (value not drawn)
RS232 Driver/Receiver; Manufacturer: ADI; Value: ADM3202ARUZ
footprint ADI-RU-16_L (TSOP, 16-Leads, Body 5x4.4mm, Pitch 0.65mm, IPC High Density)
pins: 1 C1+, 2 V+ (power), 3 C1-, 4 C2+, 5 C2-, 6 V-, 7 T2OUT (out), 8 R2IN (in), 9 R2OUT (out), 10 T2IN (in), 11 T1IN (in), 12 R1OUT (out), 13 R1IN (in), 14 T1OUT (out), 15 GND (power), 16 VCC (power)

## ADM3485ARZ
designator D?  (value not drawn)
3.3 V Slew Rate Limited, Half- and Full-Duplex, RS-485/RS-422 Transceiver; Manufacturer: ADI; Value: ADM3485ARZ
footprint ADM3485ARZ (SOIC, 8-Leads, Body 4.90x3.90mm, Pitch 1.27mm, IPC High Density)
pins: 1 RO (out), 2 ~{RE} (in), 3 DE (in), 4 DI (in), 5 GND (power), 6 A (io), 7 B (io), 8 VCC (power)

## ADM3490ARZ
designator D?  (value not drawn)
3.3 V Slew Rate Limited, Half- and Full-Duplex, RS-485/RS-422 Transceiver; Manufacturer: ADI; Value: ADM3490ARZ
footprint ADM3485ARZ (SOIC, 8-Leads, Body 4.90x3.90mm, Pitch 1.27mm, IPC High Density)
pins: 1 VCC (power), 2 RO (out), 3 DI (in), 4 GND (power), 5 Y (io), 6 Z (io), 7 B (io), 8 A (io)

## ADM7170ACPZ-3.3-R
designator D?  (value not drawn)
Manufacturer: Analog Devices; Value: ADM7170ACPZ-3.3-R
footprint ADM7170ACPZ-3.3-R (QFN, 8-Leads, Body 3.00x3.00mm, Pitch 0.50mm, Thermal Pad 2.44x1.60mm, IPC High Density)
pins: 1 VOUT (power), 2 VOUT (power), 3 SENSE, 4 SS, 5 EN, 6 GND (power), 7 VIN (power), 8 VIN (power), 9 GND (power)

## ADP1712AUJZ-3.3-R7
designator D?  (value not drawn)
Manufacturer: Analog Devices; Value: ADP1712AUJZ-3.3-R7
footprint ADP1712AUJZ (SOT23, 5-Leads, Body 2.90x2.80mm, Pitch 0.95mm, IPC High Density)
pins: 1 VIN (power), 2 GND (power), 3 EN, 4 SS, 5 OUT (power)

## ADP1714AUJZ-3.3-R7
designator D?  (value not drawn)
Manufacturer: Analog Devices; Value: ADP1714AUJZ-3.3-R7
footprint ADP1712AUJZ (SOT23, 5-Leads, Body 2.90x2.80mm, Pitch 0.95mm, IPC High Density)
pins: 1 VIN (power), 2 GND (power), 3 EN, 4 TRK, 5 OUT (power)

## ADP1720ARMZ-5-R7
designator D?  (value not drawn)
Manufacturer: Analog Devices; Value: ADP1720ARMZ-5-R7
footprint ADI-RM-8 (SOP, 8-Leads, Body 3x3mm, Pitch 0.65mm, IPC High Density)
pins: 1 GND (power), 2 IN (power), 3 OUT (out), 4 EN, 5 GND (power), 6 GND (power), 7 GND (power), 8 GND (power)

## ADP3330ARTZ3.3-RL7
designator D?  (value not drawn)
Manufacturer: Analog Devices; Value: ADP3330ARTZ3.3-RL7
footprint ADP3330-ART (SOT23, 6-Leads, Body 2.90x2.80mm, Pitch 0.95mm, IPC High Density)
pins: 1 OUT (power) "Output of the Regulator. Bypass to ground with a 1.0 uF or larger capacitor. All pins must be connected together for proper operation.", 2 IN (power) "Regulator Input. All pins must be connected together for proper operation.", 3 ~{ERR} (out) "Active Low Shutdown Pin. Connect to ground to disable the regulator output. When shutdown is not used, this pin should be connected to the input pin.", 4 GND (power) "Ground Pin.", 5 NR "Noise Reduction Pin. Used for further reduction of output noise (see the Noise Reduction section for further details).", 6 ~{SD} (in) "Output of the Regulator. Bypass to ground with a 1.0 uF or larger capacitor. All pins must be connected together for proper operation."

## ADP3335ARMZ-3.3-RL
designator D?, comment ADP3335ARMZ-3.3  (value not drawn)
High Accuracy, Ultralow IQ, 500 mA, anyCAP Low Dropout Regulator, 2.6 to 12 V Vin, 3.3 V Vout, Industrial, 8-pin SOP (RM-8), Reel; Manufacturer: Analog Devices; PartNumber: ADP3335ARMZ-3.3-RL; Vin (max) (V): 12; Vin (min) (V): 2.6; DatasheetVersion: Rev. C; PackageVersion: Aug-05; PackageReference: RM-8; PackageDescription: 8-Pin Mini Small Outline Package, Body 3 x 3 mm, Pitch 0.65 mm; Supplier 1: Digi-Key; Supplier Part Number 1: ADP3335ARMZ-3.3-RLTR-ND; Supplier 2: Digi-Key; Supplier Part Number 2: ADP3335ARMZ-3.3-RLCT-ND; Supplier 3: Digi-Key; Supplier Part Number 3: ADP3335ARMZ-3.3-RLDKR-ND; Supplier 4: Newark; Supplier Part Number 4: 59K2607; Supplier 5: Mouser; Supplier Part Number 5: 584-ADP3335ARMZ3.3R; Packing: Reel; Mounting Technology: Surface Mount; Code_JEDEC: MO-187-AA; ComponentLink1Description: Manufacturer URL; ComponentLink1URL: http://www.analog.com/en/index.html; ComponentLink2Description: Datasheet; ComponentLink2URL: http://www.analog.com/static/imported-files/data_sheets/ADP3335.pdf; ComponentLink3Description: Package Specification; ComponentLink3URL: http://www.analog.com/static/imported-files/packages/PKG_PDF/MSOP%28RM%29/RM_8.pdf; ComponentLink4Description: URL Link1; ComponentLink4URL: Product URL:http://www.analog.com/en/ADP3335/productSearch.html; Value: ADP3335ARMZ-3.3
footprint ADI-RM-8 (SOP, 8-Leads, Body 3x3mm, Pitch 0.65mm, IPC High Density)
pins: 1 OUT (power) "Output of the Regulator. Bypass to ground with a 1.0 uF or larger capacitor. All pins must be connected together for proper operation.", 2 OUT (power) "Output of the Regulator. Bypass to ground with a 1.0 uF or larger capacitor. All pins must be connected together for proper operation.", 3 OUT (power) "Output of the Regulator. Bypass to ground with a 1.0 uF or larger capacitor. All pins must be connected together for proper operation.", 4 GND (power) "Ground Pin.", 5 NR "Noise Reduction Pin. Used for further reduction of output noise (see the Noise Reduction section for further details).", 6 ~{SD} (in) "Active Low Shutdown Pin. Connect to ground to disable the regulator output. When shutdown is not used, this pin should be connected to the input pin.", 7 IN (power) "Regulator Input. All pins must be connected together for proper operation.", 8 IN (power) "Regulator Input. All pins must be connected together for proper operation."

## ADP3335ARMZ-5-RL
designator D?, comment ADP3335ARMZ-5  (value not drawn)
High Accuracy, Ultralow IQ, 500 mA, anyCAP Low Dropout Regulator, 2.6 to 12 V Vin, 5 V Vout, Industrial, 8-pin SOP (RM-8), Reel; Manufacturer: Analog Devices; Value: ADP3335ARMZ-5
footprint ADI-RM-8 (SOP, 8-Leads, Body 3x3mm, Pitch 0.65mm, IPC High Density)
pins: 1 OUT (power) "Output of the Regulator. Bypass to ground with a 1.0 uF or larger capacitor. All pins must be connected together for proper operation.", 2 OUT (power) "Output of the Regulator. Bypass to ground with a 1.0 uF or larger capacitor. All pins must be connected together for proper operation.", 3 OUT (power) "Output of the Regulator. Bypass to ground with a 1.0 uF or larger capacitor. All pins must be connected together for proper operation.", 4 GND (power) "Ground Pin.", 5 NR "Noise Reduction Pin. Used for further reduction of output noise (see the Noise Reduction section for further details).", 6 ~{SD} (in) "Active Low Shutdown Pin. Connect to ground to disable the regulator output. When shutdown is not used, this pin should be connected to the input pin.", 7 IN (power) "Regulator Input. All pins must be connected together for proper operation.", 8 IN (power) "Regulator Input. All pins must be connected together for proper operation."

## ADR366BUJZ
designator D?  (value not drawn)
Low Power, Low Noise Voltage References  with Sink/Source Capability; Value: ADR366BUJZ
footprint ADR366BUJZ- (SOT23, 5-Leads, Body 2.90x2.80mm, Pitch 0.95mm, IPC High Density)
pins: 1 NC (hiz) hidden, 2 GND (power), 3 Vin (power), 4 Vout (out), 5 TRIM

## ADR441ARM
designator D?  (value not drawn)
Ultralow Noise, LDO XFET 2.5V Voltage Reference with Current Sink and Source; Manufacturer: Analog Devices; Value: ADR441ARM
footprint ADI-RM-8 (SOP, 8-Leads, Body 3x3mm, Pitch 0.65mm, IPC High Density)
pins: 1 TP, 2 Vin (in), 3 NC (hiz) hidden, 4 GND (power), 5 TRIM, 6 Vout (out), 7 NC (hiz) hidden, 8 TP

## ADR441BRZ
designator D?  (value not drawn)
Ultralow Noise, LDO XFET 2.5V Voltage Reference with Current Sink and Source; Manufacturer: Analog Devices; Value: ADR441BRZ
footprint ADI_SOIC-8_R-8 (SOIC, 8-Leads, Body 4.90x3.90mm, Pitch 1.27mm, IPC High Density)
pins: 1 TP, 2 Vin (in), 3 NC (hiz) hidden, 4 GND (power), 5 TRIM, 6 Vout (out), 7 NC (hiz) hidden, 8 TP

## ADR3420ARJZ
designator D?  (value not drawn)
Reference 2.048V; Manufacturer: Analog Devices; Value: ADR3420ARJZ
footprint ADR3420ARJZ (SOT23, 6-Leads, Body 2.90x2.80mm, Pitch 0.95mm, IPC High Density)
pins: 1 GND_f (power), 2 GND_s (power), 3 Enable (in), 4 Vin (power) "Regulator Input. All pins must be connected together for proper operation.", 5 Vout_s (out), 6 Vout_f (out)

## ADR4533BRZ
designator D?  (value not drawn)
Reference 3.3V; Manufacturer: ADI; Value: ADR4533BRZ
footprint ADR4533BRZ (SOIC, 8-Leads, Body 4.90x3.90mm, Pitch 1.27mm, IPC High Density)
pins: 1 NC hidden, 2 Vin (power), 3 NC hidden, 4 GND (power), 5 NC hidden, 6 VOUT (out), 7 NC hidden, 8 TP

## ADuM240D1BRWZ
designator D?  (value not drawn)
Value: ADuM240D1BRWZ
footprint ADI-RW-16 (SOIC, 16-Leads, Body 10.30x7.50mm, Pitch 1.27mm, IPC High Density)
pins: 1 VDD1 (power), 2 GND1 (power), 3 VIA (in), 4 VIB (in), 5 VIC (in), 6 VID (in), 7 DISABLE1 (in), 8 GND1 (power), 9 GND2 (power), 10 NIC hidden, 11 VOD (out), 12 VOC (out), 13 VOB (out), 14 VOA (out), 15 GND2 (power), 16 VDD2 (power)

## ADuM3160BRWZ
designator U?  (value not drawn)
Value: ADuM3160BRWZ
footprint ADI-RW-16 (SOIC, 16-Leads, Body 10.30x7.50mm, Pitch 1.27mm, IPC High Density)
pins: 1 VBUS1 (power), 2 GND1 (power), 3 VDD1 (power), 4 PDEN (in), 5 SPU (in), 6 UD- (io), 7 UD+ (io), 8 GND1 (power), 9 GND2 (power), 10 DD+ (io), 11 DD- (io), 12 PIN (in), 13 SPD (in), 14 VDD2 (power), 15 GND2 (power), 16 VBUS2 (power)

## ADuM7440CRQZ
designator D?  (value not drawn)
Value: ADuM7440CRQZ
footprint ADI-RQ16-QSOP16 (SOP, 16-Leads, Body 4.90x3.91mm, Pitch 0.64mm, IPC High Density)
pins: 1 VDD1A (power), 2 GND1 (power), 3 VIA (in), 4 VIB (in), 5 VIC (in), 6 VID (in), 7 VDD1B (power), 8 GND1 (power), 9 GND2 (power), 10 VDD2B (power), 11 VOD (out), 12 VOC (out), 13 VOB (out), 14 VOA (out), 15 GND2 (power), 16 VDD2A (power)

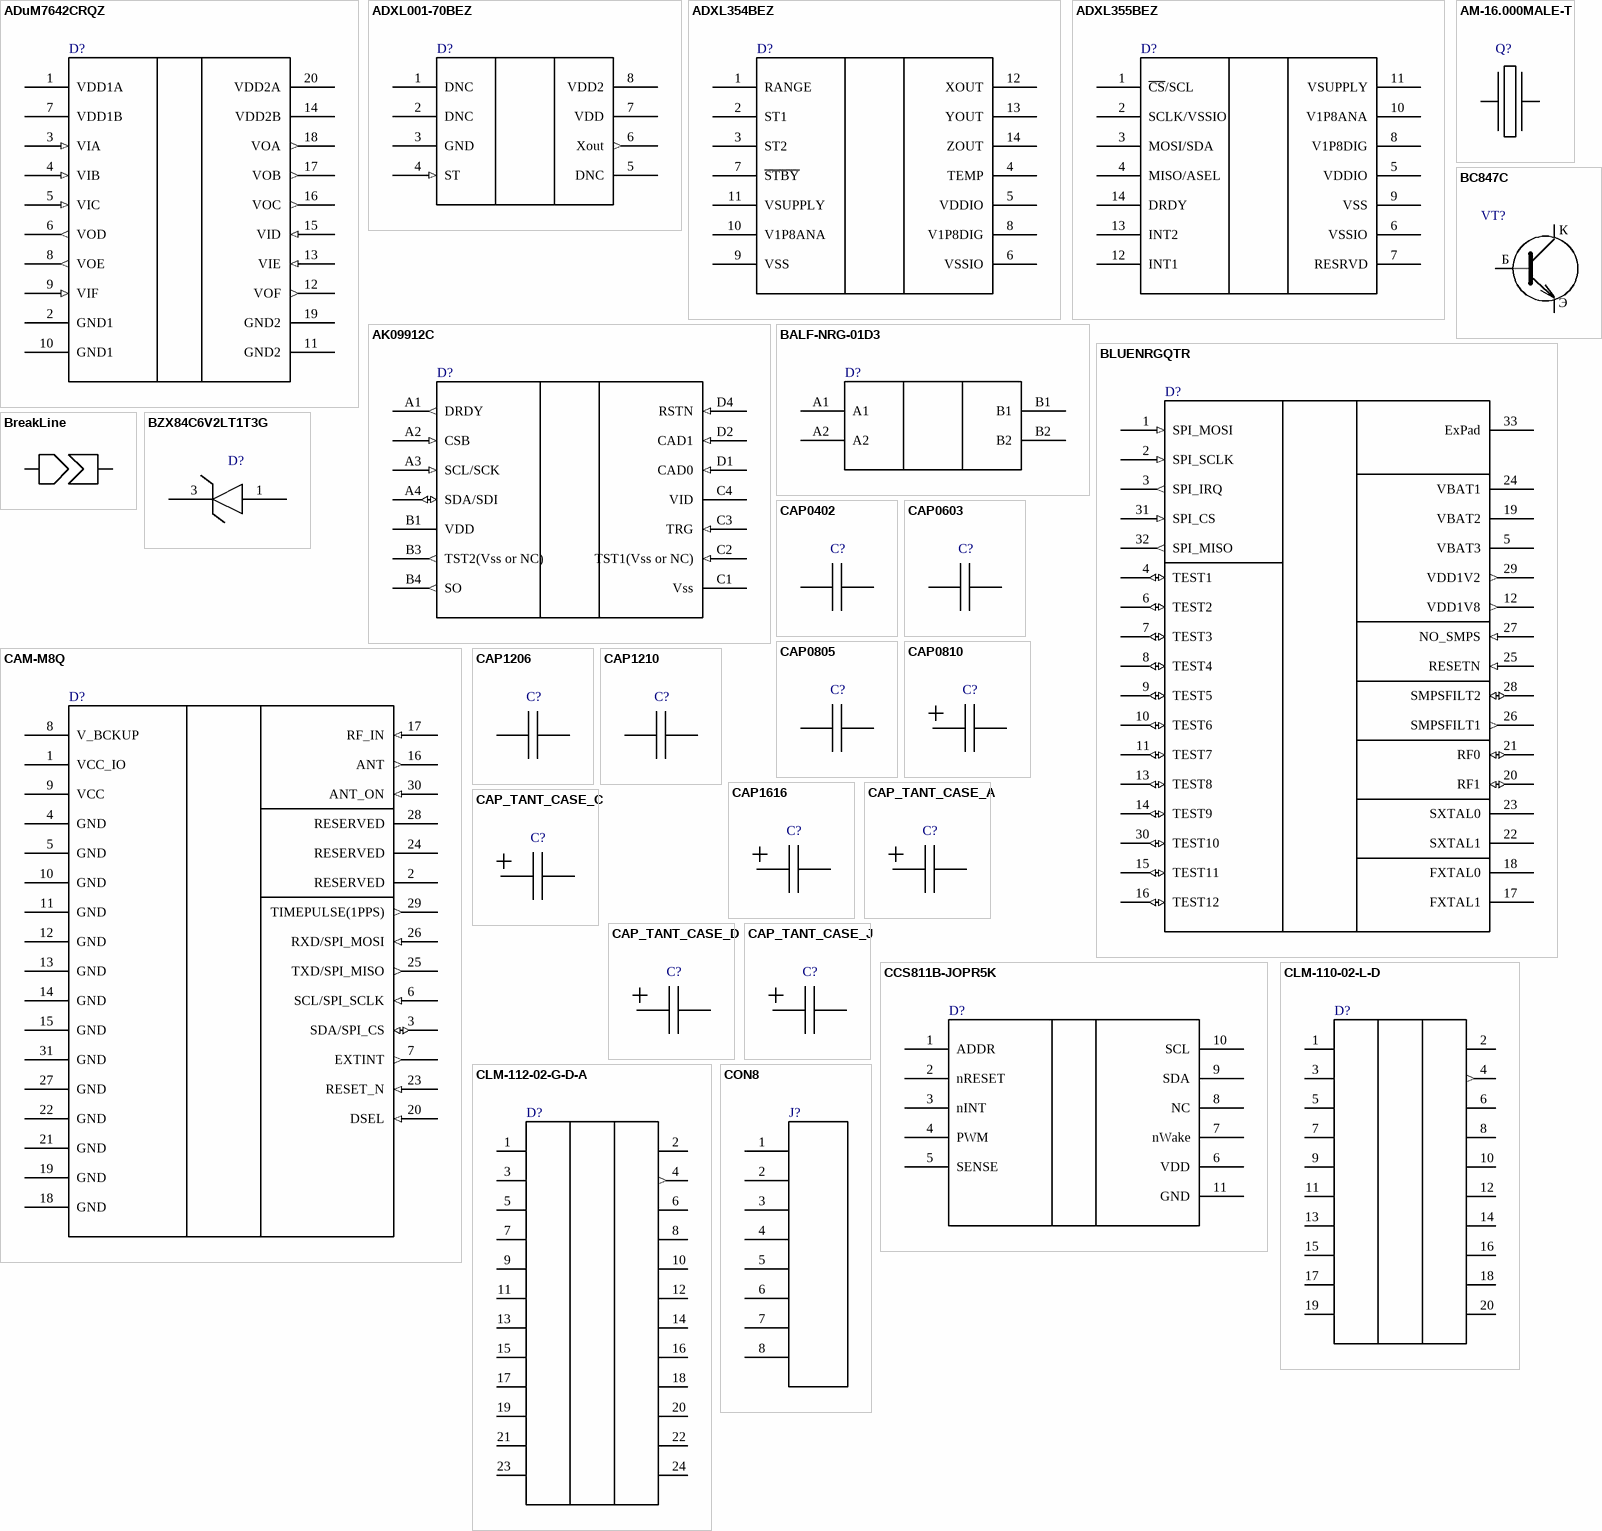
[diagram p4: symbols ADuM7642CRQZ to CON8]

## ADuM7642CRQZ
designator D?  (value not drawn)
Value: ADuM7642CRQZ
footprint ADI-RQ20-QSOP20 (SOP, 20-Leads, Body 8.66x3.91mm, Pitch 0.64mm, IPC High Density)
pins: 1 VDD1A (power), 2 GND1 (power), 3 VIA (in), 4 VIB (in), 5 VIC (in), 6 VOD (out), 7 VDD1B (power), 8 VOE (out), 9 VIF (in), 10 GND1 (power), 11 GND2 (power), 12 VOF (out), 13 VIE (in), 14 VDD2B (power), 15 VID (in), 16 VOC (out), 17 VOB (out), 18 VOA (out), 19 GND2 (power), 20 VDD2A (power)

## ADXL001-70BEZ
designator D?  (value not drawn)
Manufacturer: Analog Devices; Value: ADXL001-70BEZ
footprint ADXL001-LCC (LCC, 8-Pins, Body 5.03x5.03mmx2.40mm, Pitch 1.27mm, IPC High Density)
pins: 1 DNC (hiz), 2 DNC (hiz), 3 GND (power), 4 ST (in), 5 DNC (hiz), 6 Xout (out), 7 VDD (power), 8 VDD2 (power)

## ADXL354BEZ
designator D?  (value not drawn)
Manufacturer: Analog Devices; Value: ADXL354BEZ
footprint ADI_LCC14 (LCC, 14-Pins, Body 6.05x6.05mmx2.30mm, Pitch 1.27mm, IPC High Density)
pins: 1 RANGE, 2 ST1, 3 ST2, 4 TEMP, 5 VDDIO (power), 6 VSSIO (power), 7 ~{STBY}, 8 V1P8DIG, 9 VSS (power), 10 V1P8ANA, 11 VSUPPLY (power), 12 XOUT, 13 YOUT, 14 ZOUT

## ADXL355BEZ
designator D?  (value not drawn)
Manufacturer: Analog Devices; Value: ADXL355BEZ
footprint ADI_LCC14 (LCC, 14-Pins, Body 6.05x6.05mmx2.30mm, Pitch 1.27mm, IPC High Density)
pins: 1 ~{CS}/SCL, 2 SCLK/VSSIO, 3 MOSI/SDA, 4 MISO/ASEL, 5 VDDIO (power), 6 VSSIO (power), 7 RESRVD, 8 V1P8DIG (power), 9 VSS (power), 10 V1P8ANA (power), 11 VSUPPLY (power), 12 INT1, 13 INT2, 14 DRDY

## AK09912C
designator D?  (value not drawn)
FIS1100; Manufacturer: AKM; Value: AK09912C
footprint AK09912C (BGA, 14-Leads, Body 1.59x1.59mmx0.57mm, Pitch 0.40mm)
pins: A1 DRDY (out), A2 CSB (in), A3 SCL/SCK (in), A4 SDA/SDI (io), B1 VDD (power), B3 TST2(Vss or NC) (out), B4 SO (out), C1 Vss (power), C2 TST1(Vss or NC) (in), C3 TRG (in), C4 VID (power), D1 CAD0 (in), D2 CAD1 (in), D4 RSTN (in)

## AM-16.000MALE-T
designator Q?  (value not drawn)
Manufacturer: TXC; ValueComment: 16.0MHz; Value: AM-16.000MALE-T
footprint KX-7 (KX-7 Crystal)
pins: 1, 2

## BALF-NRG-01D3
designator D?  (value not drawn)
BALF-NRG-01D3, 50 Ω nominal input / conjugate match balun to BlueNRG transceiver, with integrated harmonic filter; Manufacturer: STMicroelectronics; Value: BALF-NRG-01D3
footprint ST_Flip_chip_4 (BGA, 4-Leads, Body 0.85x1.40mmx0.70mm, Pitch 0.40mm)
pins: A1, A2, B1, B2

## BC847C
designator VT?  (value not drawn)
NPN general purpose 45V 100mA transistor; Manufacturer: NXP; Value: BC847C
footprint SOT23-NXP (SOT23, 3-Leads, Body 2.90x2.30mm, Pitch 0.95mm, IPC High Density)
pins: 1 Б, 2 Э, 3 К

## BLUENRGQTR
designator D?  (value not drawn)
BLUENRGQTR, Bluetooth low energy wireless network processor; Manufacturer: STMicroelectronics; Value: BLUENRGQTR
footprint ST-QFN32 (QFN, 32-Leads, Body 5.00x5.00mm, Pitch 0.50mm, Thermal Pad 3.30x3.30mm, IPC High Density)
pins: 1 SPI_MOSI (in), 2 SPI_SCLK (in), 3 SPI_IRQ (out), 4 TEST1 (io), 5 VBAT3 (power), 6 TEST2 (io), 7 TEST3 (io), 8 TEST4 (io), 9 TEST5 (io), 10 TEST6 (io), 11 TEST7 (io), 12 VDD1V8 (out), 13 TEST8 (io), 14 TEST9 (io), 15 TEST11 (io), 16 TEST12 (io), 17 FXTAL1, 18 FXTAL0, 19 VBAT2 (power), 20 RF1 (io), 21 RF0 (io), 22 SXTAL1, 23 SXTAL0, 24 VBAT1 (power), 25 RESETN (in), 26 SMPSFILT1 (out), 27 NO_SMPS (in), 28 SMPSFILT2 (io), 29 VDD1V2 (out), 30 TEST10 (io), 31 SPI_CS (in), 32 SPI_MISO (out), 33 ExPad (power)

## BreakLine
designator J?
breakLine; ValueComment: перемычка
footprint BreakLine
pins: 1, 2

## BZX84C6V2LT1T3G
designator D?  (value not drawn)
Manufacturer: OnSemi; Value: BZX84C6V2LT1T3G
footprint BZX84C6V2LT1/T3G (SOT-23)
pins: 1, 2 hidden, 3

## CAM-M8Q
designator D?  (value not drawn)
CAM-M8Q GPS receiver; Manufacturer: uBlox; Value: CAM-M8Q
footprint CAM-M8Q (CAM-M8Q module)
pins: 1 VCC_IO (power), 2 RESERVED, 3 SDA/SPI_CS (io), 4 GND (power), 5 GND (power), 6 SCL/SPI_SCLK (in), 7 EXTINT (out), 8 V_BCKUP (power), 9 VCC (power), 10 GND (power), 11 GND (power), 12 GND (power), 13 GND (power), 14 GND (power), 15 GND (power), 16 ANT (out), 17 RF_IN (in), 18 GND (power), 19 GND (power), 20 DSEL (in), 21 GND (power), 22 GND (power), 23 RESET_N (in), 24 RESERVED, 25 TXD/SPI_MISO (out), 26 RXD/SPI_MOSI (in), 27 GND (power), 28 RESERVED, 29 TIMEPULSE(1PPS) (out), 30 ANT_ON (in), 31 GND (power)

## CAP0402
designator C?  (value not drawn)
Chip capacitor 0402; Value: *; Manufacturer: *
footprint CAP0402 (Capacitor, 0402, IPC High Density)
pins: 1, 2

## CAP0603
designator C?  (value not drawn)
Chip capacitor 0603; Value: *; Manufacturer: *
footprint CAP0603 (Chip Capacitor, 2-Leads, 0603, IPC High Density)
pins: 1, 2

## CAP0805
designator C?  (value not drawn)
Chip capacitor 0805; Value: *; Manufacturer: *
footprint CAP0805 (Chip Capacitor, 2-Leads, Body 2.00x1.25mm, IPC Medium Density)
pins: 1, 2

## CAP0810
designator C?  (value not drawn)
CAP0810; Value: *; Manufacturer: *
footprint CAP0810 (Aluminum Electrolytic Capacitor, Body 8.00x8.00x10.50mm, IPC High Density)
pins: 1, 2

## CAP1206
designator C?  (value not drawn)
Chip capacitor 1206; Value: *; Manufacturer: *
footprint CAP1206 (Chip Capacitor, 2-Leads, Body 3.20x1.60mm, IPC High Density)
pins: 1, 2

## CAP1210
designator C?  (value not drawn)
Chip capacitor 1210; Value: *; Manufacturer: *
footprint CAP1210 (Chip Capacitor, 2-Leads, Body 3.20x2.60mm, IPC High Density)
pins: 1, 2

## CAP1616
designator C?  (value not drawn)
Electrolyte capacitor 1616; Value: *; Manufacturer: *
footprint CAP1616 (Aluminum Electrolytic Capacitor, Body 16.30x16.30x16.70mm, IPC Low Density)
pins: 1, 2

## CAP_TANT_CASE_A
designator C?  (value not drawn)
CAP_TANT_CASE_A; Value: *; Manufacturer: *
footprint CAP_TANT_CASE_A (Molded Capacitor, 2-Leads, Body 3.20x1.60mm, IPC High Density)
pins: 1, 2

## CAP_TANT_CASE_C
designator C?  (value not drawn)
CAP_TANT_CASE_C; Value: *; Manufacturer: *
footprint CAP_TANTAL_CASE_C (Molded Capacitor, 2-Leads, Body 6.00x3.20mm, IPC High Density)
pins: 1, 2

## CAP_TANT_CASE_D
designator C?  (value not drawn)
CAP_TANT_CASE_D; Value: *; Manufacturer: *
footprint CAP_TANT_CASE_D (Chip Capacitor, 2-Leads, Body 7.30x4.30mm, IPC High Density)
pins: 1, 2

## CAP_TANT_CASE_J
designator C?  (value not drawn)
CAP_TANT_CASE_J; Value: *; Manufacturer: *
footprint CAP0603 (Chip Capacitor, 2-Leads, 0603, IPC High Density)
pins: 1, 2

## CCS811B-JOPR5K
designator D?, comment CCS811B-JOPR5KCT-ND  (value not drawn)
Gas sensor; Manufacturer: AMS; Value: CCS811B-JOPR5KCT-ND
footprint CCS811B-JOPR5KCT-ND (PSON, 10-Leads, Body 4.00x2.70mm, Pitch 0.60mm, Thermal Pad 2.40x1.20mm, IPC Medium Density)
pins: 1 ADDR, 2 nRESET, 3 nINT, 4 PWM, 5 SENSE, 6 VDD (power), 7 nWake, 8 NC, 9 SDA, 10 SCL, 11 GND (power)

## CLM-110-02-L-D
designator D?  (value not drawn)
Manufacturer: SAMTEC; Value: CLM-110-02-L-D
footprint CLM-110-02
pins: 1, 2, 3, 4 (out), 5, 6, 7, 8, 9, 10, 11, 12, 13, 14, 15, 16, 17, 18, 19, 20

## CLM-112-02-G-D-A
designator D?  (value not drawn)
Manufacturer: SAMTEC; Value: CLM-112-02-G-D-A
footprint CLM-112-02-G-D-A
pins: 1, 2, 3, 4 (out), 5, 6, 7, 8, 9, 10, 11, 12, 13, 14, 15, 16, 17, 18, 19, 20, 21, 22, 23, 24

## CON8
designator J?, comment Connector_8_pin  (value not drawn)
Value: Connector_8_pin
pins: 1, 2, 3, 4, 5, 6, 7, 8

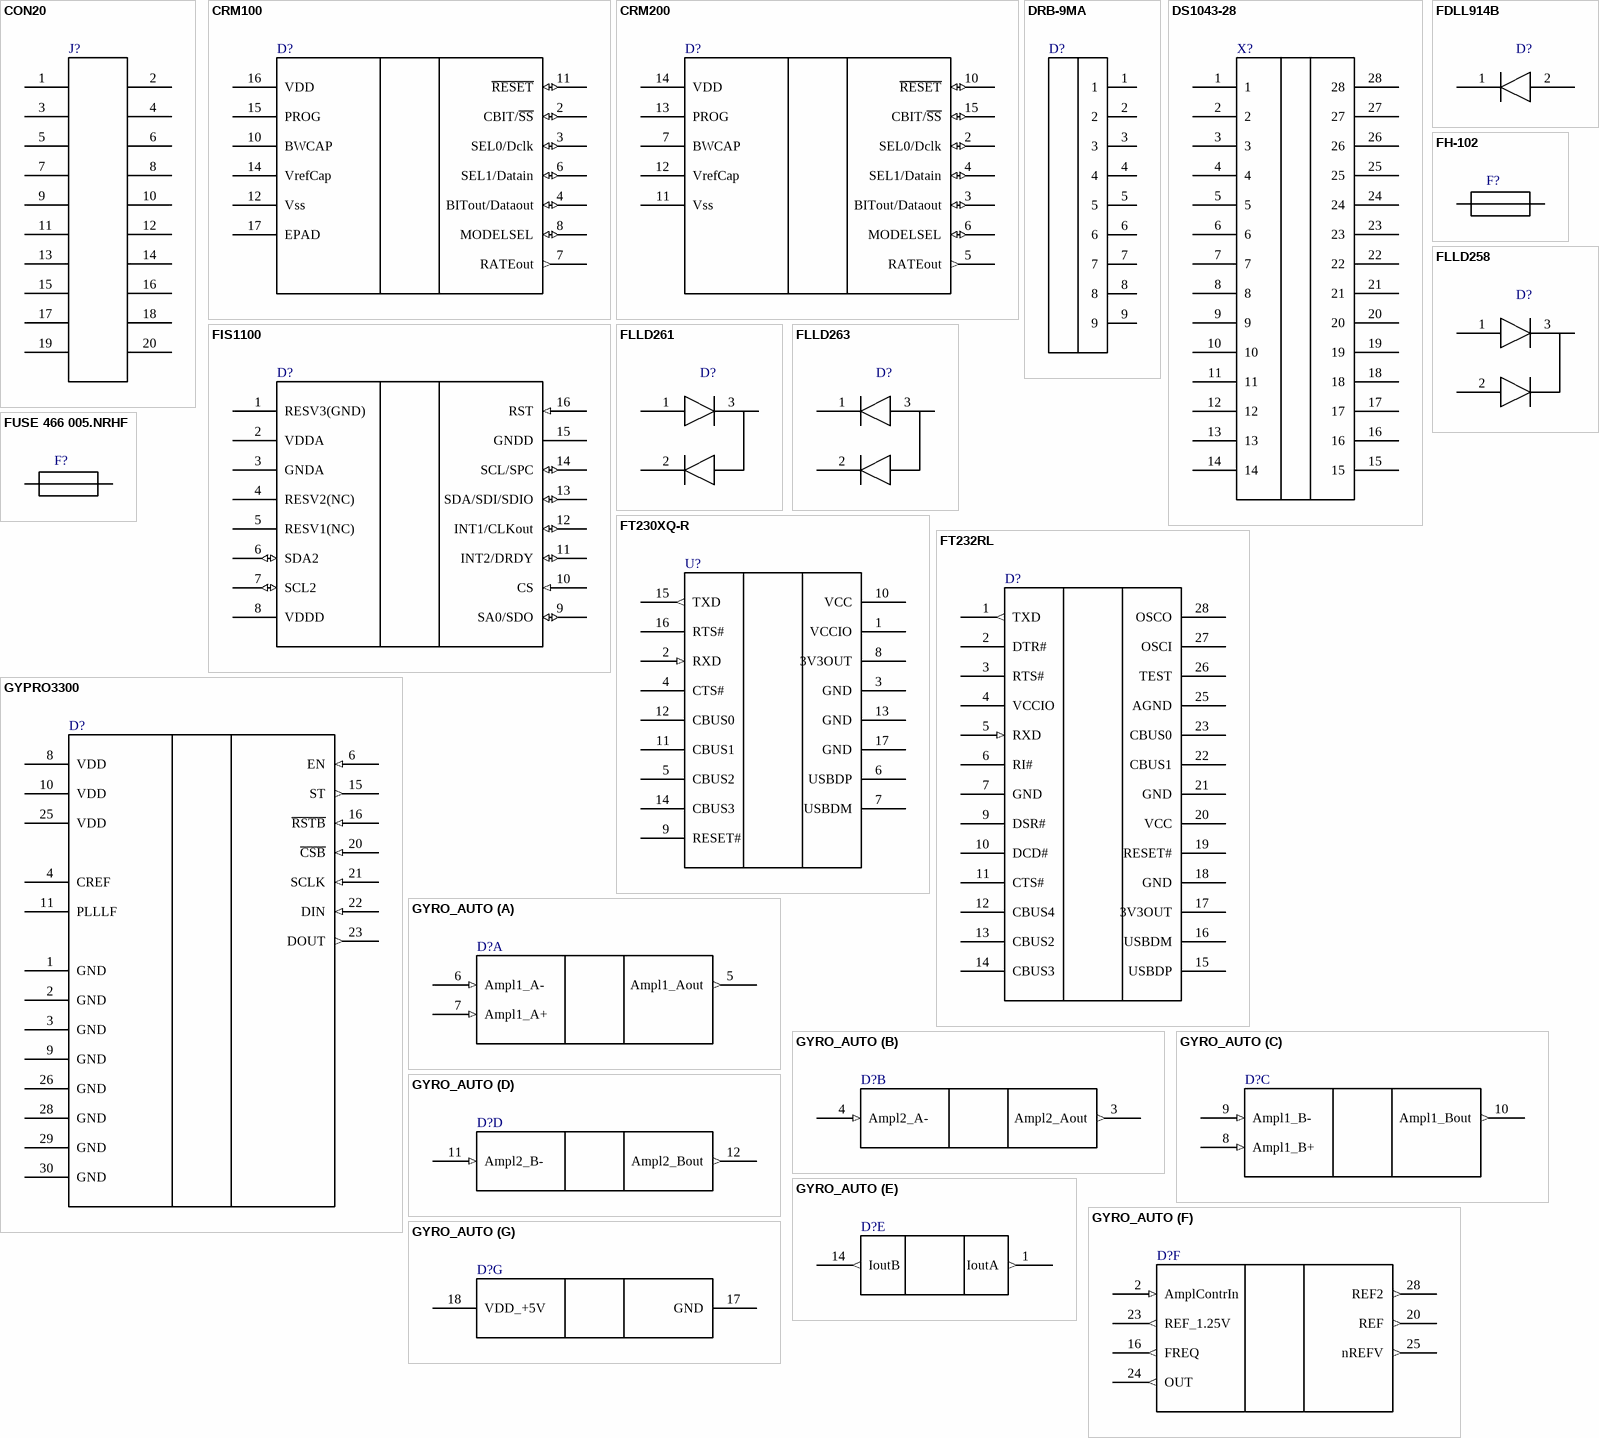
[diagram p5: symbols CON20 to GYRO_AUTO]

## CON20
designator J?, comment Connector_20_pin  (value not drawn)
Value: Connector_20_pin
pins: 1, 2, 3, 4, 5, 6, 7, 8, 9, 10, 11, 12, 13, 14, 15, 16, 17, 18, 19, 20

## CRM100
designator D?  (value not drawn)
CRM100 gyro; Value: CRM100
footprint CRM100 (LCC, 12-Pins, Body 5.70x4.78mmx1.18mm, Pitch 0.90mm, IPC High Density)
pins: 1 DNC (hiz) hidden, 2 CBIT/~{SS} (io), 3 SEL0/Dclk (io), 4 BITout/Dataout (io), 5 DNC (hiz) hidden, 6 SEL1/Datain (io), 7 RATEout (out), 8 MODELSEL (io), 9 DNC (hiz) hidden, 10 BWCAP, 11 ~{RESET} (io), 12 Vss (power), 13 DNC (hiz) hidden, 14 VrefCap, 15 PROG, 16 VDD (power), 17 EPAD

## CRM200
designator D?  (value not drawn)
CRM200 gyro; Value: CRM200
footprint CRM200 (LCC, 12-Pins, Body 5.70x4.78mmx1.18mm, Pitch 0.90mm, IPC High Density)
pins: 1 DNC (hiz) hidden, 2 SEL0/Dclk (io), 3 BITout/Dataout (io), 4 SEL1/Datain (io), 5 RATEout (out), 6 MODELSEL (io), 7 BWCAP, 8 DNC (hiz) hidden, 9 DNC (hiz) hidden, 10 ~{RESET} (io), 11 Vss (power), 12 VrefCap, 13 PROG, 14 VDD (power), 15 CBIT/~{SS} (io), 16 DNC (hiz) hidden

## DRB-9MA
designator D?, comment DRB-9MA (DS1037-09MNAKT74-0CC)  (value not drawn)
Manufacturer: Ningbo connfly electronic; Value: DRB-9MA (DS1037-09MNAKT74-0CC)
footprint DRB-9MA
pins: 1, 2, 3, 4, 5, 6, 7, 8, 9

## DS1043-28
designator X?  (value not drawn)
DS104-28; Value: DS1043-28; Manufacturer: *
footprint DS1043-28
pins: 1, 2, 3, 4, 5, 6, 7, 8, 9, 10, 11, 12, 13, 14, 15, 16, 17, 18, 19, 20, 21, 22, 23, 24, 25, 26, 27, 28

## FDLL914B
designator D?  (value not drawn)
Manufacturer: OnSemi; Value: FDLL914B
footprint FDLL914B (SOD-80)
pins: 1, 2

## FH-102
designator F?  (value not drawn)
FH-102 fuse; Value: FH-102
footprint FH-102
pins: 1, 2

## FIS1100
designator D?  (value not drawn)
Manufacturer: OnSemi; Value: FIS1100
footprint FIS1100 (QFN, 16-Leads, Body 3.30x3.30mm, Pitch 0.50mm, Thermal Pad 0.50x0.50mm, IPC High Density)
pins: 1 RESV3(GND) "Connect to GND", 2 VDDA (power), 3 GNDA (power), 4 RESV2(NC), 5 RESV1(NC), 6 SDA2 (io), 7 SCL2 (io), 8 VDDD (power), 9 SA0/SDO (io), 10 CS (in), 11 INT2/DRDY (io), 12 INT1/CLKout (io), 13 SDA/SDI/SDIO (io), 14 SCL/SPC (io), 15 GNDD (power), 16 RST (in)

## FLLD258
designator D?  (value not drawn)
Manufacturer: Zetex; Value: FLLD258
footprint SOT-23_DIODE (SOT23, 3-Leads, Body 2.92x2.30mm, Pitch 0.95mm, IPC High Density)
pins: 1, 2, 3